# Altium schematic symbol library First Board IMX6.SchLib: 153 symbols (part 1 of 2)
Pins are listed as number, name and electrical type; pins without a type are passive.

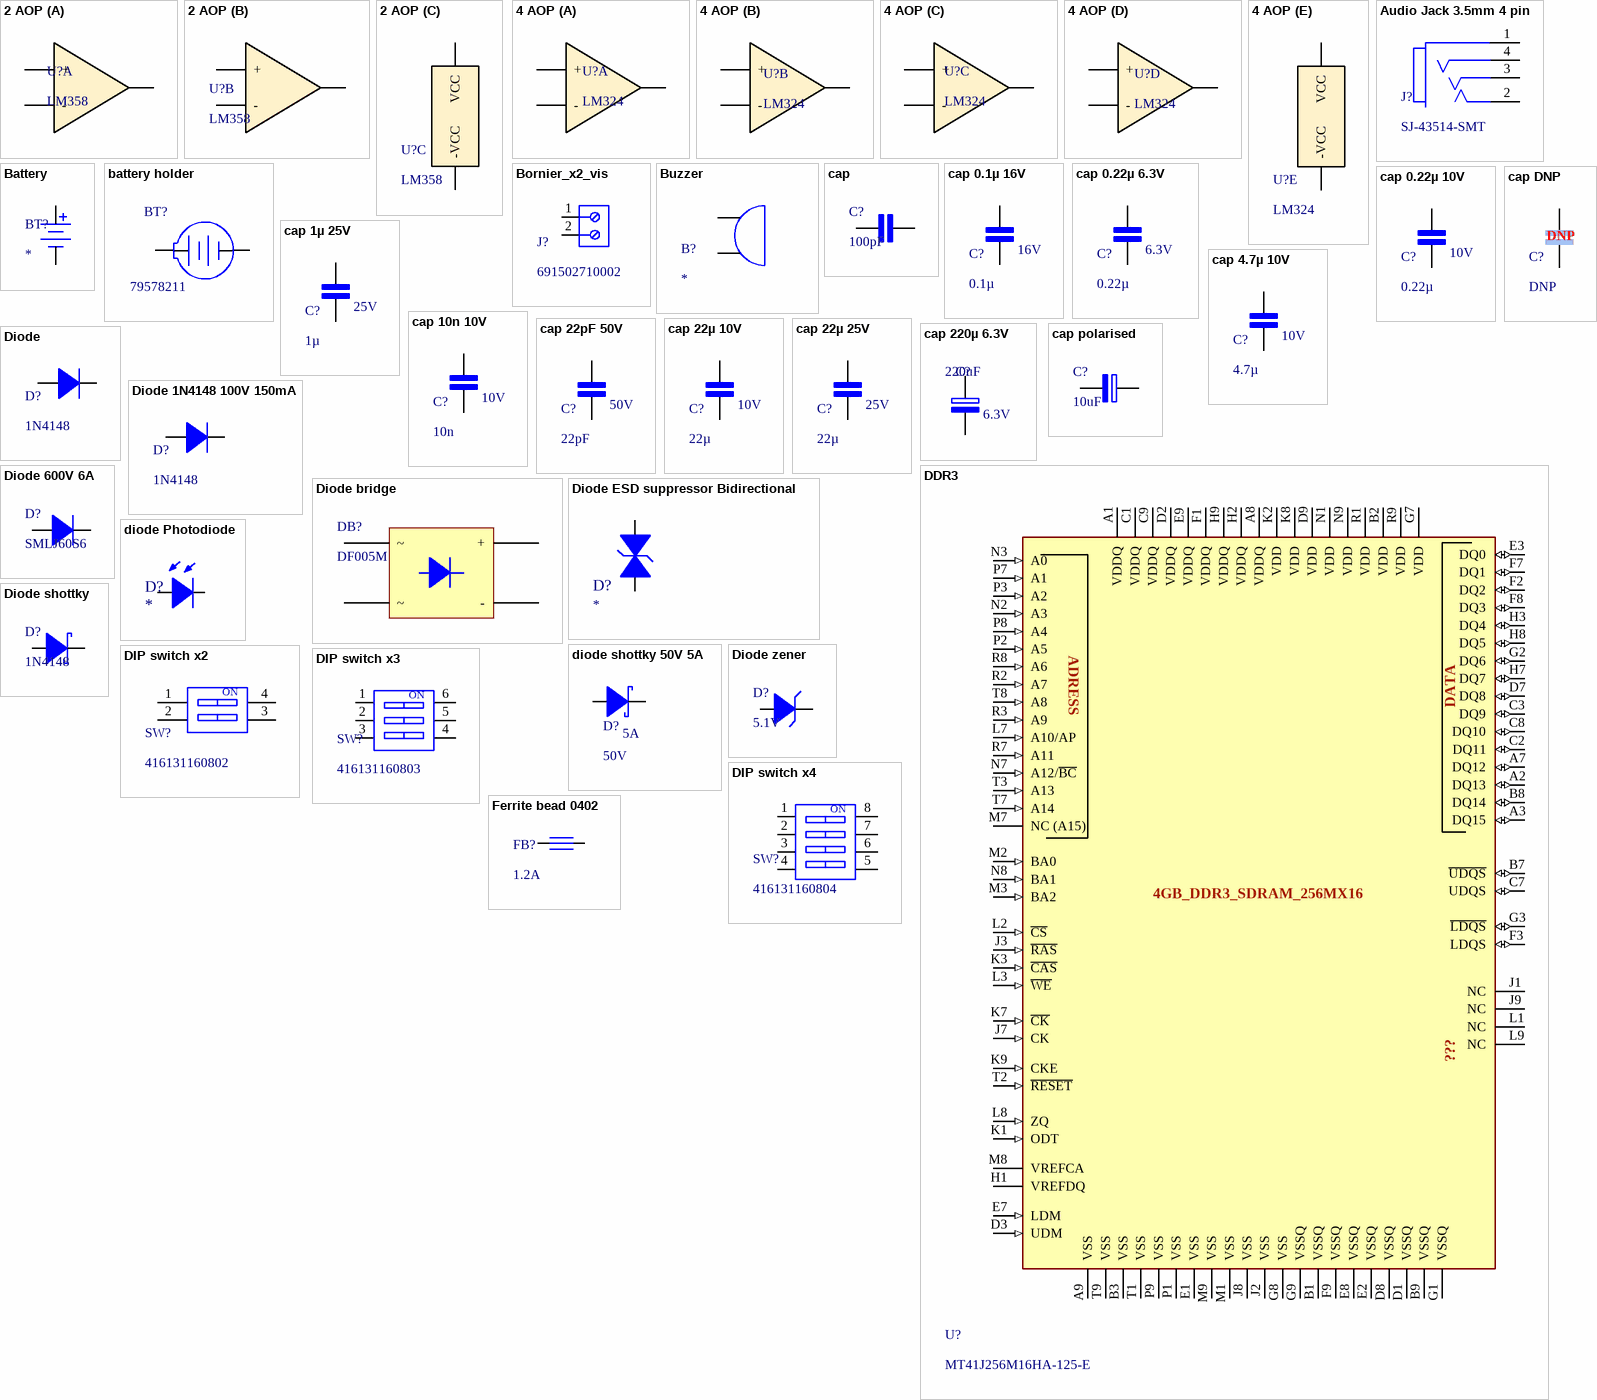
[diagram p0: symbols 2 AOP to Ferrite bead 0402]

## 2 AOP
designator U?, comment LM358
footprint DIP8
footprint Soic-8
part A pins: 1 out, 2 -, 3 +
part B pins: 5 +, 6 -, 7 out
part C pins: 4 -VCC, 8 VCC

## 4 AOP
designator U?, comment LM324
footprint DIP14
part A pins: 1 out, 2 -, 3 +
part B pins: 5 +, 6 -, 7 out
part C pins: 8 out, 9 -, 10 +
part D pins: 12 +, 13 -, 14 out
part E pins: 4 VCC, 11 -VCC

## Audio Jack 3.5mm 4 pin
designator J?, comment SJ-43514-SMT
4 pole audio Jack SJ-43514-SMT
footprint Jack SJ-43514-SMT
pins: 1 sleeve, 2 tip, 3 ring 1, 4 ring 2

## Battery
designator BT?
pins: 1, 2

## battery holder
designator BT?, comment 79578211
WA-BCPH Battery Holder, THT, Battery Type 2450; Manufacturer: Wurth Elektronik; Battery Type: 2450; ComponentLink1Description: Manufacturer; ComponentLink1URL: http://www.we-online.de; ComponentLink2Description: Datasheet; ComponentLink2URL: https://www.we-online.com/catalog/datasheet/79578211.pdf; Manufacturer Part Number: 79578211; Mounting Technology: THT; Operating Temperature: -40 to +105degC; Published Date: July 2021; Packaging: Bag
footprint Battery holder
pins: 1 +, 2 -

## Bornier_x2_vis
designator J?, comment 691502710002
footprint Bornier à vis x2
pins: 1, 2

## Buzzer
designator B?
footprint buzzer 2
footprint Buzzer
pins: 1, 2

## cap
designator C?, comment 100pF
footprint Cap cer 0805/2012
footprint Cap cer 2.5mm pitch THT
footprint Cap cer 0402/1005
footprint Cap cer 0603/4608
footprint Cap cer 1206/3216
footprint Cap cer 1808/4516
pins: 1 3, 2 4

## cap 0.1µ 16V
designator C?, comment 0.1µ  Tension du diélectrique: 16V
cap solid electrolyte 0.1µ 6.3V 10%; Diélectrique: X7R
footprint Cap cer 0402/1005
pins: 1 3, 2 4

## cap 0.22µ 6.3V
designator C?, comment 0.22µ  Tension du diélectrique: 6.3V
cap solid electrolyte 0.22µ 6.3V 10%; Diélectrique: X5R
footprint CAP CER 0201/0603
pins: 1 3, 2 4

## cap 0.22µ 10V
designator C?, comment 0.22µ  Tension du diélectrique: 10V
cap cer 0.22µ 10V 10% X5R 0402; Diélectrique: X5R
footprint Cap cer 0402/1005
pins: 1 3, 2 4

## cap 1µ 25V
designator C?, comment 1µ  Tension du diélectrique: 25V
cap cer 1µ 25V 10% X5R 0402; Diélectrique: X5R
footprint Cap cer 0402/1005
pins: 1 3, 2 4

## cap 4.7µ 10V
designator C?, comment 4.7µ  Tension du diélectrique: 10V
cap cer 4.7µ 10V 10% X7R 0402; Diélectrique: X7R
footprint Cap cer 0402/1005
pins: 1 3, 2 4

## cap 10n 10V
designator C?, comment 10n  Tension du diélectrique: 10V
cap ceramique 10n 10V 10% 0201; Diélectrique: X5R
footprint CAP CER 0201/0603
pins: 1 3, 2 4

## cap 22pF 50V
designator C?, comment 22pF  Tension du diélectrique: 50V
cap cer 22pF 50V 5% NP0 0402; Diélectrique: NP0
footprint Cap cer 0402/1005
pins: 1 3, 2 4

## cap 22µ 10V
designator C?, comment 22µ  Tension du diélectrique: 10V
cap cer 22µ 10V 10% X5R 0603; Diélectrique: X5R
footprint Cap cer 0603/4608
pins: 1 3, 2 4

## cap 22µ 25V
designator C?, comment 22µ  Tension du diélectrique: 25V
cap cer 22µ 25V 10% X5R 0805; Diélectrique: X5R
footprint Cap cer 0805/2012
pins: 1 3, 2 4

## cap 220µ 6.3V
designator C?, comment 220uF  Rated Voltage (DC): 6.3V
WCAP-PHGP Aluminum Polymer Capacitor, H-Chip SMT, L7.3W4.3H1.9mm, 220uF, 6.3V 875015119006; Manufacturer: Wurth Elektronik; Capacitance Tolerance: +/-20%; Dissipation Factor: 6%; Endurance: 2000h; ESR: 15mOhm; Leakage Current: 138.6uA; Ripple Current: 5100mA; Technical Reference: PSE2917221M6R3DHCT2HT19; ComponentLink1Description: Manufacturer Link; ComponentLink1URL: https://www.we-online.com/redexpert/article/875015119006?ad; ComponentLink2Description: Datasheet; ComponentLink2URL: https://www.we-online.com/redexpert/spec/875015119006?ad; Category: Aluminum Polymer Capacitors; Match Code: WCAP-PHGP; Manufacturer Part Number: 875015119006; Mount: Surface Mount; Operating Temperature Max: 105°C; Operating Temperature Min: -55°C; Packaging: Tape and Reel; Length: 7.3mm; Width: 4.3mm; Height: 1.9mm; Capacitance: 220uF; Parameter 1: *
footprint cap polymer wurth
pins: 1 P, 2 N

## cap DNP
designator C?, comment DNP
cap cer DNP 0402
footprint Cap cer 0402/1005
pins: 1 3, 2 4

## cap polarised
designator C?, comment 10uF
footprint CAP EL 10 mm Pitch
footprint Cap el 2.5 mm Pitch
footprint Cap EL 5.0 mm Pitch
footprint Cap EL 3.5 mm Pitch
footprint Cap el 7.5 mm Pitch
pins: 1 3, 2 4

## DDR3
designator U?, comment MT41J256M16HA-125-E
DDR3 4Gbx4
footprint BGA-96 DDR3
ibis MT41J512M8RH (Model Description)
pins: A1 VDDQ (power), A2 DQ13 (io), A3 DQ15 (io), A7 DQ12 (io), A8 VDDQ (power), A9 VSS (power), B1 VSSQ (power), B2 VDD (power), B3 VSS (power), B7 ~{UDQS} (io), B8 DQ14 (io), B9 VSSQ (power), C1 VDDQ (power), C2 DQ11 (io), C3 DQ9 (io), C7 UDQS (io), C8 DQ10 (io), C9 VDDQ (power), D1 VSSQ (power), D2 VDDQ (power), D3 UDM (in), D7 DQ8 (io), D8 VSSQ (power), D9 VDD (power), E1 VSS (power), E2 VSSQ (power), E3 DQ0 (io), E7 LDM (in), E8 VSSQ (power), E9 VDDQ (power), F1 VDDQ (power), F2 DQ2 (io), F3 LDQS (io), F7 DQ1 (io), F8 DQ3 (io), F9 VSSQ (power), G1 VSSQ (power), G2 DQ6 (io), G3 ~{LDQS} (io), G7 VDD (power), G8 VSS (power), G9 VSSQ (power), H1 VREFDQ (power), H2 VDDQ (power), H3 DQ4 (io), H7 DQ7 (io), H8 DQ5 (io), H9 VDDQ (power), J1 NC, J2 VSS (power), J3 ~{RAS} (in), J7 CK (in), J8 VSS (power), J9 NC, K1 ODT (in), K2 VDD (power), K3 ~{CAS} (in), K7 ~{CK} (in), K8 VDD (power), K9 CKE (in), L1 NC, L2 ~{CS} (in), L3 ~{WE} (in), L7 A10/AP (in), L8 ZQ (in), L9 NC, M1 VSS (power), M2 BA0 (in), M3 BA2 (in), M7 NC (A15), M8 VREFCA (power), M9 VSS (power), N1 VDD (power), N2 A3 (in), N3 A0 (in), N7 A12/~{BC} (in), N8 BA1 (in), N9 VDD (power), P1 VSS (power), P2 A5 (in), P3 A2 (in), P7 A1 (in), P8 A4 (in), P9 VSS (power), R1 VDD (power), R2 A7 (in), R3 A9 (in), R7 A11 (in), R8 A6 (in), R9 VDD (power), T1 VSS (power), T2 ~{RESET} (in), T3 A13 (in), T7 A14 (in), T8 A8 (in), T9 VSS (power)
text: ADRESS; DATA; 4GB_DDR3_SDRAM_256MX16; ???

## Diode
designator D?, comment 1N4148
footprint diode SOD-123
footprint diode 10mm
footprint Diode 5.6mm
footprint Diode DO-214AC
footprint diode SOD-323
pins: A, K

## Diode 1N4148 100V 150mA
designator D?, comment 1N4148
footprint diode SOD-123
pins: A, K

## Diode 600V 6A
designator D?, comment SMLJ60S6
Diode 600V 6A DO-214AB
footprint DO-214AB
pins: A, K

## Diode bridge
designator DB?, comment DF005M
footprint bridge rect GBU
footprint Diode bridge DIP4
pins: 1 +, 2 -, 3 ~, 4 ~

## Diode ESD suppressor Bidirectional
designator D?
footprint Cap cer 0603/4608
pins: 1, 2

## diode Photodiode
designator D?
pins: A, K

## Diode shottky
designator D?, comment 1N4148
footprint Diode 0.3
footprint Diode 5.6mm
footprint Diode DO-214AC
footprint diode SOD-323
footprint diode SOD-123
pins: A, K

## diode shottky 50V 5A
designator D?, comment 50V  Courant: 5A
diode shottky 50V 5A DO-214C
footprint Diode DO-214AC
pins: A, K

## Diode zener
designator D?, comment 5.1V
footprint Diode DO-214AC
footprint Diode Z 7mm
footprint diode SOD-123
footprint Diode 5.6mm
pins: A, K

## DIP switch x2
designator SW?, comment 416131160802
footprint DIP switch x2 1.27mm
pins: 1, 2, 3, 4
text: ON

## DIP switch x3
designator SW?, comment 416131160803
footprint DIP switch x3 1.27mm
pins: 1, 2, 3, 4, 5, 6
text: ON

## DIP switch x4
designator SW?, comment 416131160804
footprint DIP SWITCH x4 1.27mm
pins: 1, 2, 3, 4, 5, 6, 7, 8
text: ON

## Ferrite bead 0402
designator FB?, comment 1.2A
ferrite bead 1.2A 70mohm / 74269242111; ComponentLink1Description: New link; ComponentLink1URL: https://www.we-online.com/catalog/datasheet/74269242111.pdf
footprint inductor 0402/1005
pins: 1, 2

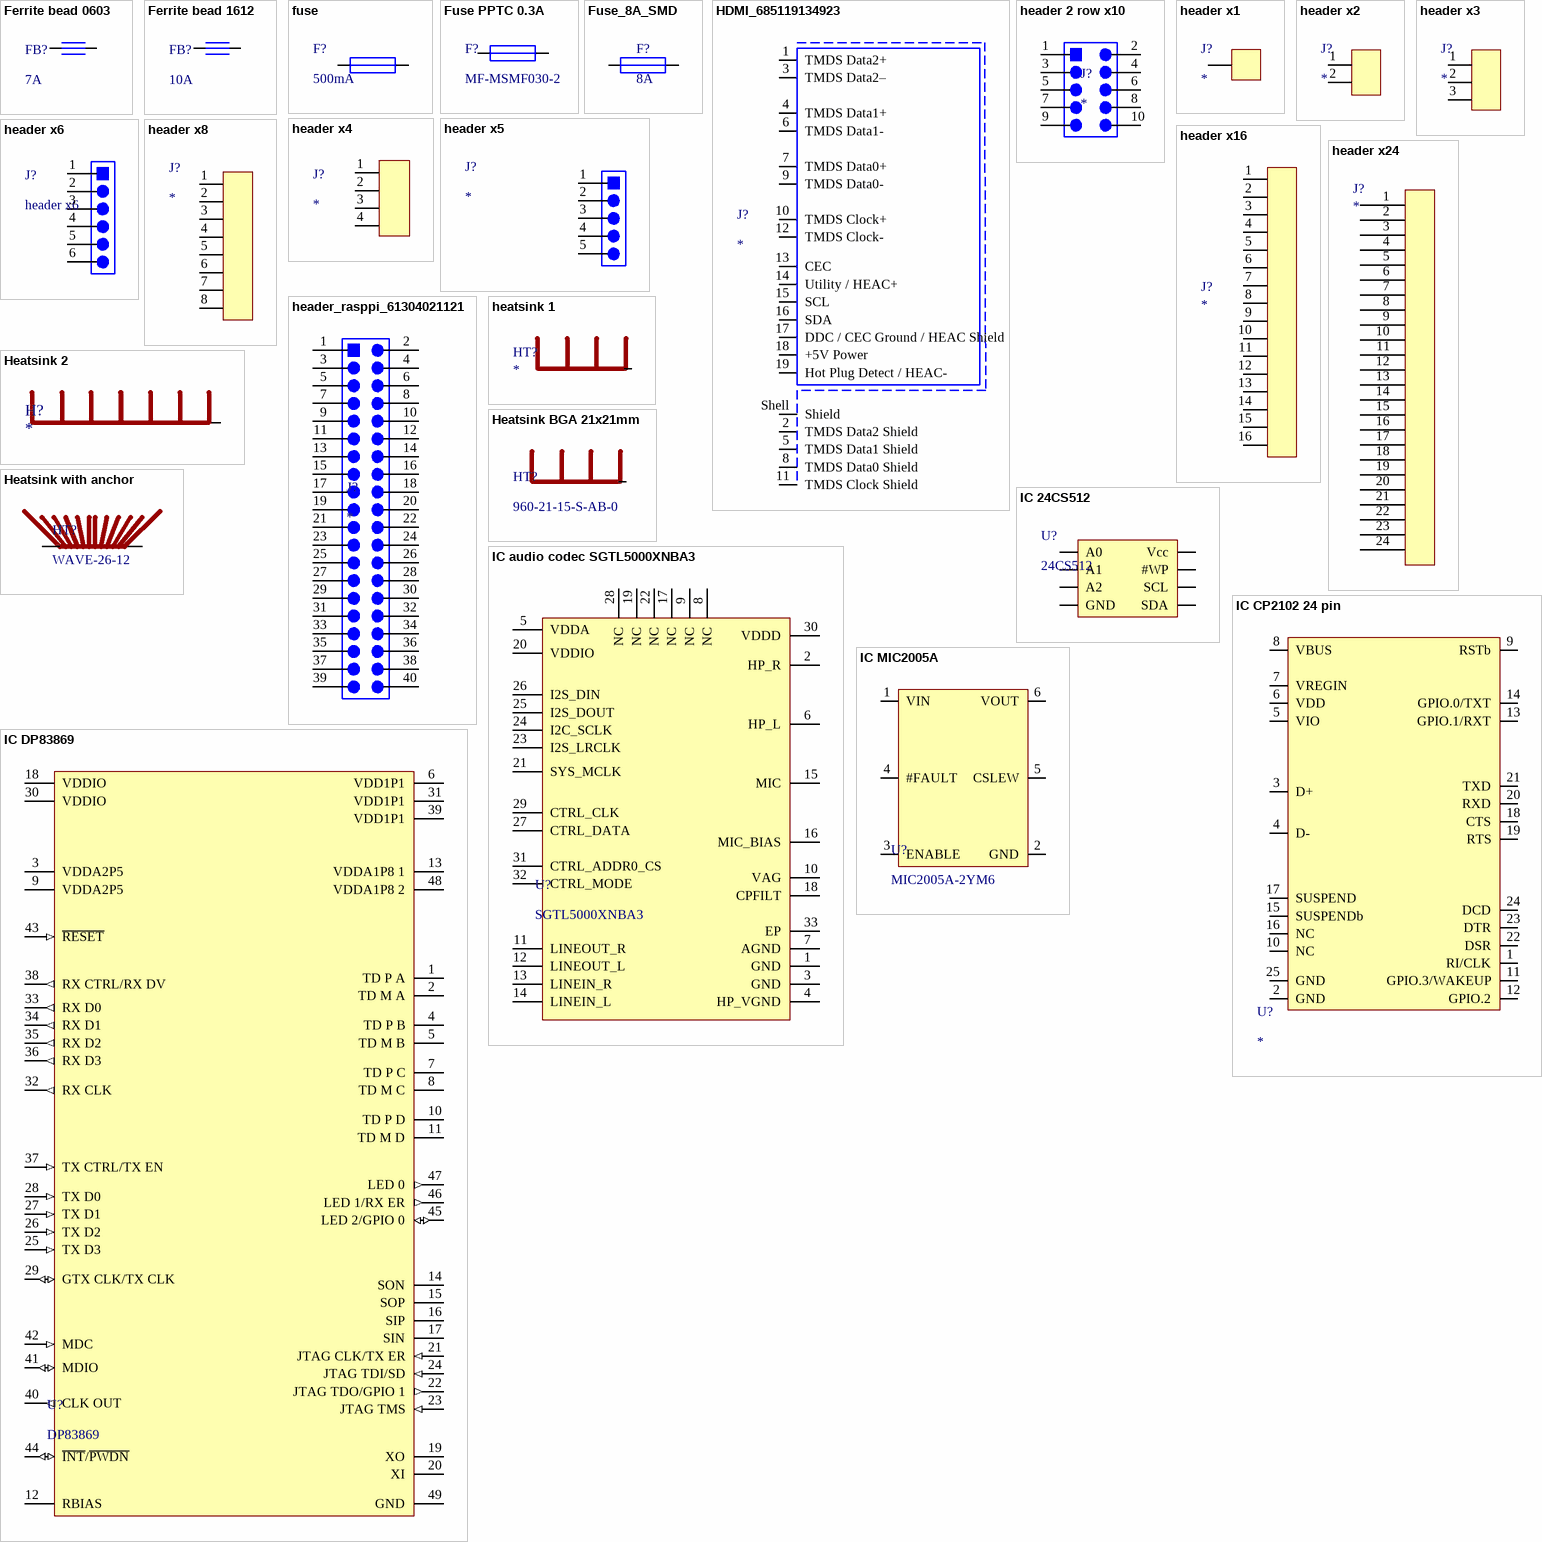
[diagram p1: symbols Ferrite bead 0603 to IC MIC2005A]

## Ferrite bead 0603
designator FB?, comment 7A
ferrite bead 17AA 2mohm / 7426926222; ComponentLink1Description: New link; ComponentLink1URL: https://www.we-online.com/catalog/datasheet/7426926222.pdf
footprint inductor 0603/1603
pins: 1, 2

## Ferrite bead 1612
designator FB?, comment 10A
ferrite bead 10A 2.5m Ohm / 74279223560; ComponentLink1Description: New link; ComponentLink1URL: https://www.we-online.com/catalog/datasheet/74279223560.pdf
footprint Ferrite SMD 1612
pins: 1, 2

## fuse
designator F?, comment 500mA
footprint fuse n2
pins: 1, 2

## Fuse PPTC 0.3A
designator F?, comment MF-MSMF030-2
Hold : 0.3A, trip 0.6A 30V 1812
footprint Fuse 1812/4532 MF-MSMF050-2
pins: 1, 2

## Fuse_8A_SMD
designator F?, comment 8A
Fuse 6A SMD 2410 / NANO; ComponentLink1Description: New link; ComponentLink1URL: https://www.mouser.fr/datasheet/2/240/Littelfuse_Fuse_154_154T_154L_154TL_Datasheet_pdf-365375.pdf
footprint Fuse holder SMD 01550900M
pins: 1, 2

## HDMI_685119134923
designator J?
footprint HDMI_685119134923
pins: 1 TMDS Data2+, 2 TMDS Data2 Shield, 3 TMDS Data2–, 4 TMDS Data1+, 5 TMDS Data1 Shield, 6 TMDS Data1-, 7 TMDS Data0+, 8 TMDS Data0 Shield, 9 TMDS Data0-, 10 TMDS Clock+, 11 TMDS Clock Shield, 12 TMDS Clock-, 13 CEC, 14 Utility / HEAC+, 15 SCL, 16 SDA, 17 DDC / CEC Ground / HEAC Shield, 18 +5V Power, 19 Hot Plug Detect / HEAC-, Shell Shield

## header 2 row x10
designator J?
62131021021
footprint header 2row x10 (Pin Header, pitch 1.27 mm, SMD, Vertical, dual row, 10p)
pins: 1, 2, 3, 4, 5, 6, 7, 8, 9, 10

## header x1
designator J?
footprint Header x1
pins: 1

## header x2
designator J?
footprint Header x2
footprint header x2 screw
pins: 1, 2

## header x3
designator J?
footprint header x3 screw
footprint header x3
pins: 1, 2, 3

## header x4
designator J?
footprint Molex 4
pins: 1, 2, 3, 4

## header x5
designator J?
footprint Header x5
pins: 1, 2, 3, 4, 5

## header x6
designator J?
footprint Header x6
pins: 1, 2, 3, 4, 5, 6

## header x8
designator J?
footprint header x8
pins: 1, 2, 3, 4, 5, 6, 7, 8

## header x16
designator J?
footprint PFC x16 0.5 mm pitch
pins: 1, 2, 3, 4, 5, 6, 7, 8, 9, 10, 11, 12, 13, 14, 15, 16

## header x24
designator J?
pins: 1, 2, 3, 4, 5, 6, 7, 8, 9, 10, 11, 12, 13, 14, 15, 16, 17, 18, 19, 20, 21, 22, 23, 24

## header_rasppi_61304021121
designator J?
header raspberry pi compatible
footprint header_rasppi_61304021121
pins: 1, 2, 3, 4, 5, 6, 7, 8, 9, 10, 11, 12, 13, 14, 15, 16, 17, 18, 19, 20, 21, 22, 23, 24, 25, 26, 27, 28, 29, 30, 31, 32, 33, 34, 35, 36, 37, 38, 39, 40

## heatsink 1
designator HT?
footprint heatsink Mult 15
pins: 1

## Heatsink 2
designator H?
pins: 1

## Heatsink BGA 21x21mm
designator HT?, comment 960-21-15-S-AB-0
Heatsink : 960-21-15-S-AB-0 / 6°/W @ 200LFM
footprint Heatsink BGA 21x21mm
pins: 1

## Heatsink with anchor
designator HT?, comment WAVE-26-12
Anchor : 125700D00000G / Heatsink : WAVE-23-165 / 5.21°/W @ 200LFM
footprint Heatsink Wave-23-165
pins: 1 Anchor, 2 Anchor

## IC 24CS512
designator U?, comment 24CS512
EEPROM 512kbit
footprint soic-8
pins: 1 A0, 2 A1, 3 A2, 4 GND, 5 SDA, 6 SCL, 7 #WP, 8 Vcc

## IC audio codec SGTL5000XNBA3
designator U?, comment SGTL5000XNBA3
Audio codec
footprint QFN32 (QFN, 32-Leads, Body 5,00x5,00mm, Pitch 0,50mm, Thermal Pad 3,60x3,60mm, IPC Medium Density)
pins: 1 GND, 2 HP_R, 3 GND, 4 HP_VGND, 5 VDDA, 6 HP_L, 7 AGND, 8 NC, 9 NC, 10 VAG, 11 LINEOUT_R, 12 LINEOUT_L, 13 LINEIN_R, 14 LINEIN_L, 15 MIC, 16 MIC_BIAS, 17 NC, 18 CPFILT, 19 NC, 20 VDDIO, 21 SYS_MCLK, 22 NC, 23 I2S_LRCLK, 24 I2C_SCLK, 25 I2S_DOUT, 26 I2S_DIN, 27 CTRL_DATA, 28 NC, 29 CTRL_CLK, 30 VDDD, 31 CTRL_ADDR0_CS, 32 CTRL_MODE, 33 EP

## IC CP2102 24 pin
designator U?
UART to USB converter
footprint QFN24
pins: 1 RI/CLK, 2 GND, 3 D+, 4 D-, 5 VIO, 6 VDD, 7 VREGIN, 8 VBUS, 9 RSTb, 10 NC, 11 GPIO.3/WAKEUP, 12 GPIO.2, 13 GPIO.1/RXT, 14 GPIO.0/TXT, 15 SUSPENDb, 16 NC, 17 SUSPEND, 18 CTS, 19 RTS, 20 RXD, 21 TXD, 22 DSR, 23 DTR, 24 DCD, 25 GND

## IC DP83869
designator U?, comment DP83869
Ethernet transciever
footprint QFN48
pins: 1 TD P A, 2 TD M A, 3 VDDA2P5 (power), 4 TD P B, 5 TD M B, 6 VDD1P1 (power), 7 TD P C, 8 TD M C, 9 VDDA2P5 (power), 10 TD P D, 11 TD M D, 12 RBIAS, 13 VDDA1P8 1 (power), 14 SON, 15 SOP, 16 SIP, 17 SIN, 18 VDDIO (power), 19 XO, 20 XI, 21 JTAG CLK/TX ER (in), 22 JTAG TDO/GPIO 1 (out), 23 JTAG TMS (in), 24 JTAG TDI/SD (in), 25 TX D3 (in), 26 TX D2 (in), 27 TX D1 (in), 28 TX D0 (in), 29 GTX CLK/TX CLK (io), 30 VDDIO (power), 31 VDD1P1 (power), 32 RX CLK (out), 33 RX D0 (out), 34 RX D1 (out), 35 RX D2 (out), 36 RX D3 (out), 37 TX CTRL/TX EN (in), 38 RX CTRL/RX DV (out), 39 VDD1P1 (power), 40 CLK OUT (out), 41 MDIO (io), 42 MDC (in), 43 ~{RESET} (in), 44 ~{INT}/~{PWDN} (io), 45 LED 2/GPIO 0 (io), 46 LED 1/RX ER (out), 47 LED 0 (out), 48 VDDA1P8 2 (power), 49 GND (power)

## IC MIC2005A
designator U?, comment MIC2005A-2YM6
Current limiter 0.5A; ComponentLink1Description: New link; ComponentLink1URL: https://ww1.microchip.com/downloads/aemDocuments/documents/APID/ProductDocuments/DataSheets/MIC20XX-Fixed-and-Adjustable-Current-Limiting-Power-Distribution-Switches-DS20006486B.pdf
footprint SOt-23-6
pins: 1 VIN, 2 GND, 3 ENABLE, 4 #FAULT, 5 CSLEW, 6 VOUT

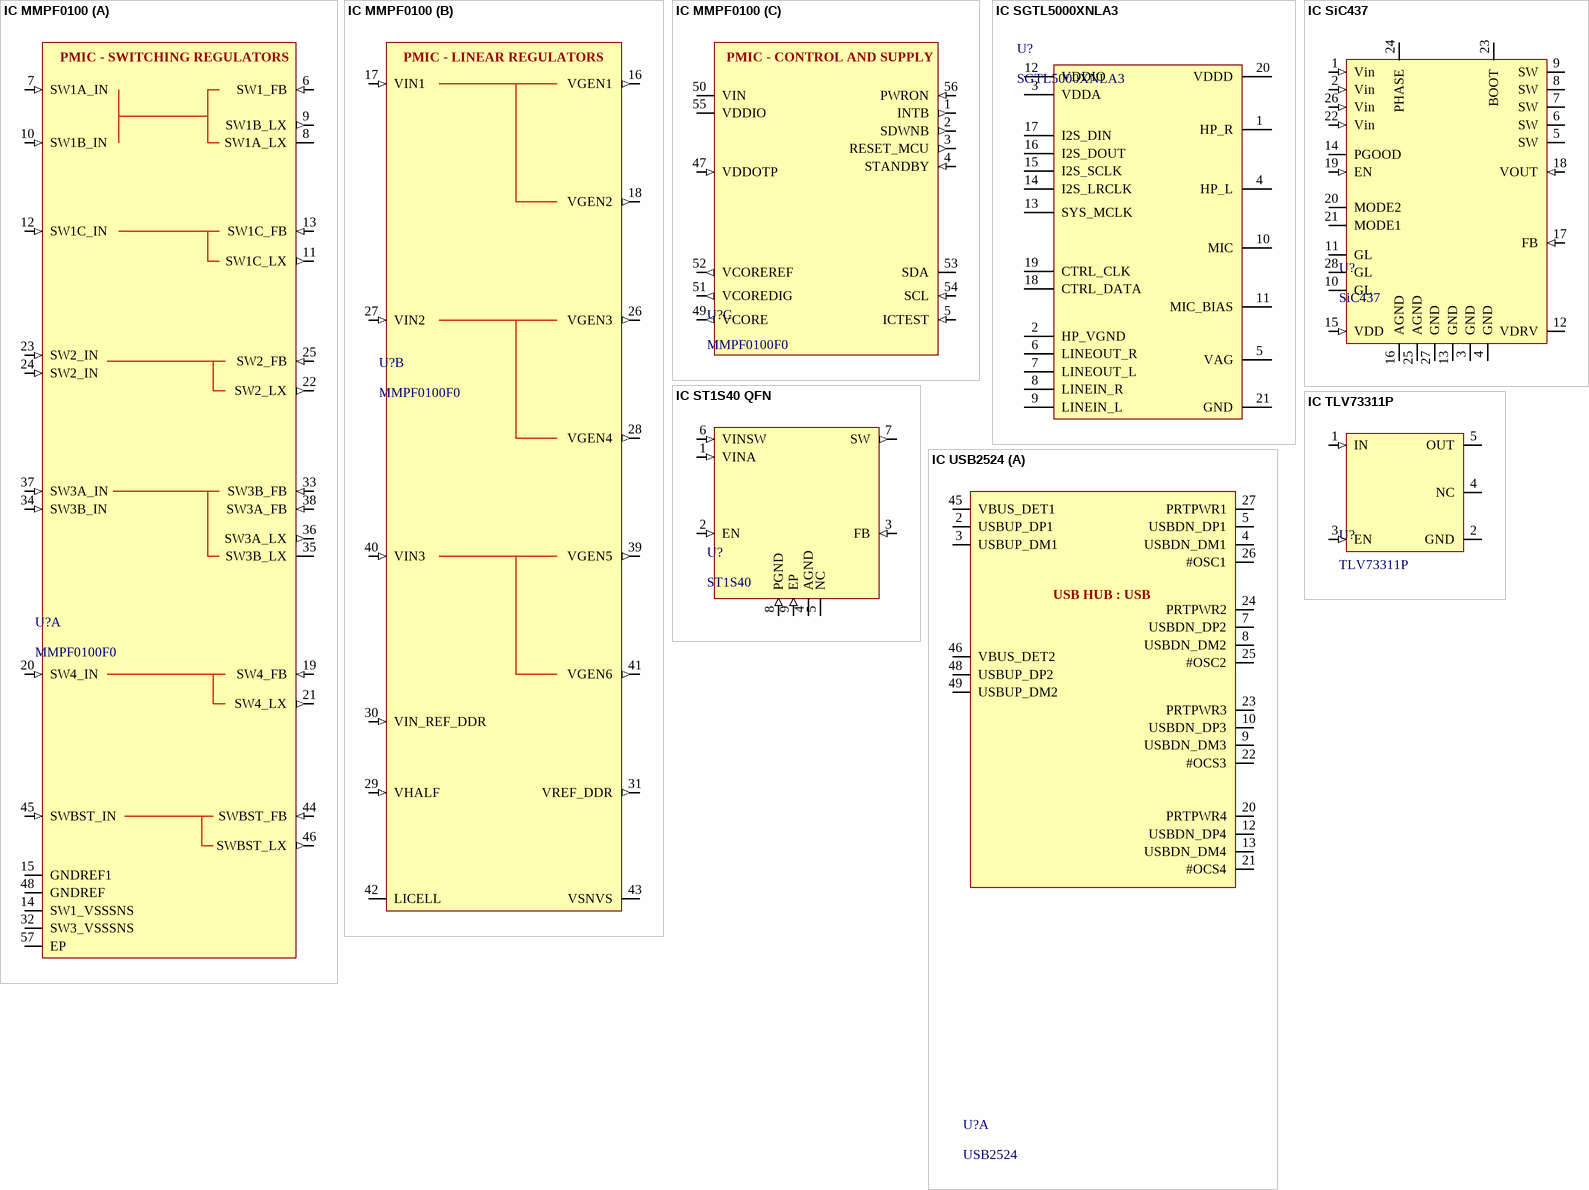
[diagram p2: symbols IC MMPF0100 to IC USB2524]

## IC MMPF0100
designator U?, comment MMPF0100F0
PMIC; ComponentLink1Description: New link; ComponentLink1URL: D:\Carte_IMX6\datasheet\MMPF0100.pdf
footprint MMPF0100
part A pins: 6 SW1_FB (in), 7 SW1A_IN (in), 8 SW1A_LX, 9 SW1B_LX (out), 10 SW1B_IN (in), 11 SW1C_LX (out), 12 SW1C_IN (in), 13 SW1C_FB (in), 14 SW1_VSSSNS, 15 GNDREF1, 19 SW4_FB (in), 20 SW4_IN (in), 21 SW4_LX (out), 22 SW2_LX (out), 23 SW2_IN (in), 24 SW2_IN (in), 25 SW2_FB (in), 32 SW3_VSSSNS, 33 SW3B_FB (in), 34 SW3B_IN (in), 35 SW3B_LX, 36 SW3A_LX (out), 37 SW3A_IN (in), 38 SW3A_FB (in), 44 SWBST_FB (in), 45 SWBST_IN (in), 46 SWBST_LX (out), 48 GNDREF, 57 EP
part B pins: 16 VGEN1 (out), 17 VIN1 (in), 18 VGEN2 (out), 26 VGEN3 (out), 27 VIN2 (in), 28 VGEN4 (out), 29 VHALF (in), 30 VIN_REF_DDR (in), 31 VREF_DDR (out), 39 VGEN5 (out), 40 VIN3 (in), 41 VGEN6 (out), 42 LICELL (io), 43 VSNVS (io)
part C pins: 1 INTB (out), 2 SDWNB (out), 3 RESET_MCU (out), 4 STANDBY (in), 5 ICTEST (in), 47 VDDOTP (in), 49 VCORE (out), 50 VIN (power), 51 VCOREDIG (out), 52 VCOREREF (out), 53 SDA (io), 54 SCL (in), 55 VDDIO (power), 56 PWRON (in)
part A text: PMIC - SWITCHING REGULATORS
part B text: PMIC - LINEAR REGULATORS
part C text: PMIC - CONTROL AND SUPPLY

## IC SGTL5000XNLA3
designator U?, comment SGTL5000XNLA3
Audio codec
footprint QFN20 (QFN, 20-Leads, Body 3,00x3,00mm, Pitch 0,40mm, Thermal Pad 1,80x1,80mm, IPC Medium Density)
pins: 1 HP_R, 2 HP_VGND, 3 VDDA, 4 HP_L, 5 VAG, 6 LINEOUT_R, 7 LINEOUT_L, 8 LINEIN_R, 9 LINEIN_L, 10 MIC, 11 MIC_BIAS, 12 VDDIO, 13 SYS_MCLK, 14 I2S_LRCLK, 15 I2S_SCLK, 16 I2S_DOUT, 17 I2S_DIN, 18 CTRL_DATA, 19 CTRL_CLK, 20 VDDD, 21 GND

## IC SiC437
designator U?, comment SiC437
3-28V in 12A out max
footprint SiC437
pins: 1 Vin (in), 2 Vin (in), 3 GND, 4 GND, 5 SW, 6 SW, 7 SW, 8 SW, 9 SW, 10 GL, 11 GL, 12 VDRV, 13 GND, 14 PGOOD, 15 VDD (in), 16 AGND, 17 FB (in), 18 VOUT (in), 19 EN (in), 20 MODE2, 21 MODE1, 22 Vin (in), 23 BOOT, 24 PHASE, 25 AGND, 26 Vin (in), 27 GND, 28 GL

## IC ST1S40 QFN
designator U?, comment ST1S40
switching regulator
footprint SON 4x4 ST1S40 (SON, 8-Leads, Body 4,00x4,00mm, Pitch 0,80mm, Thermal Pad 3,00x2,20mm, IPC Medium Density)
pins: 1 VINA (in), 2 EN (in), 3 FB (in), 4 AGND, 5 NC, 6 VINSW (in), 7 SW (out), 8 PGND (in), 9 EP (in)

## IC TLV73311P
designator U?, comment TLV73311P
+1.1V 350mA LDO
footprint Sot-23-5
pins: 1 IN (in), 2 GND, 3 EN (in), 4 NC, 5 OUT (power)

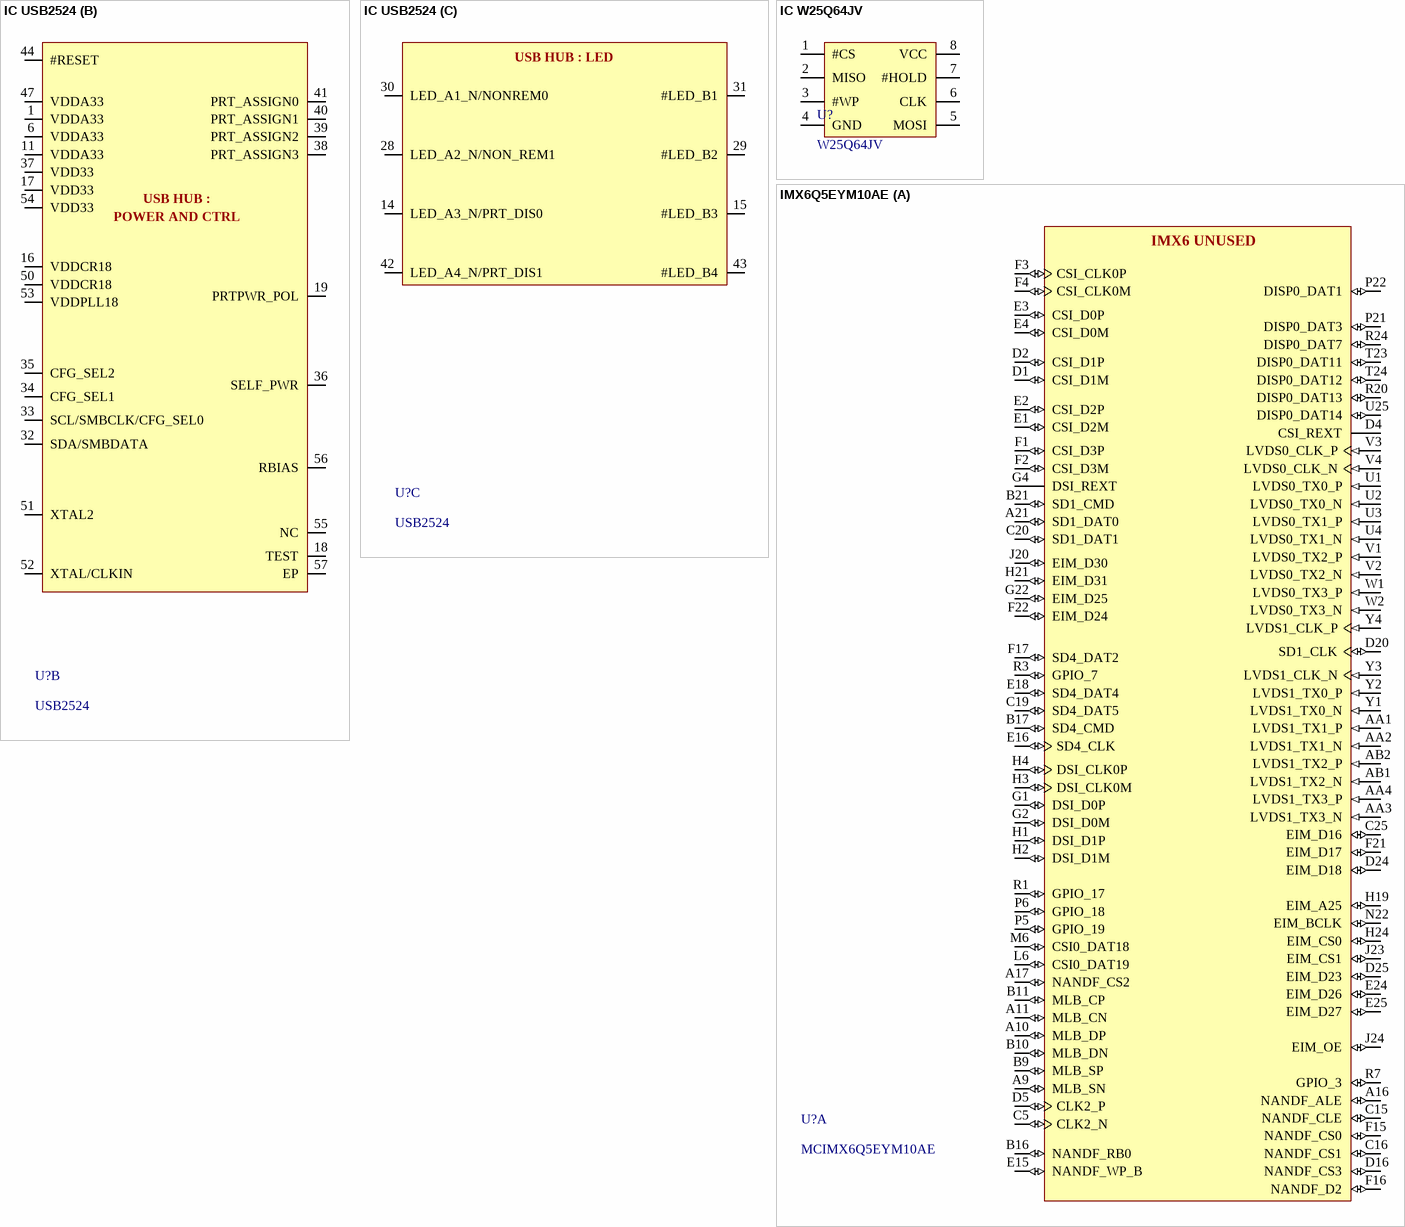
[diagram p3: symbols IC USB2524 to IMX6Q5EYM10AE]

## IC USB2524
designator U?, comment USB2524
USB hub 4 ports
footprint QFN56
part A pins: 2 USBUP_DP1, 3 USBUP_DM1, 4 USBDN_DM1, 5 USBDN_DP1, 7 USBDN_DP2, 8 USBDN_DM2, 9 USBDN_DM3, 10 USBDN_DP3, 12 USBDN_DP4, 13 USBDN_DM4, 20 PRTPWR4, 21 #OCS4, 22 #OCS3, 23 PRTPWR3, 24 PRTPWR2, 25 #OSC2, 26 #OSC1, 27 PRTPWR1, 45 VBUS_DET1, 46 VBUS_DET2, 48 USBUP_DP2, 49 USBUP_DM2
part B pins: 1 VDDA33, 6 VDDA33, 11 VDDA33, 16 VDDCR18, 17 VDD33, 18 TEST, 19 PRTPWR_POL, 32 SDA/SMBDATA, 33 SCL/SMBCLK/CFG_SEL0, 34 CFG_SEL1, 35 CFG_SEL2, 36 SELF_PWR, 37 VDD33, 38 PRT_ASSIGN3, 39 PRT_ASSIGN2, 40 PRT_ASSIGN1, 41 PRT_ASSIGN0, 44 #RESET, 47 VDDA33, 50 VDDCR18, 51 XTAL2, 52 XTAL/CLKIN, 53 VDDPLL18, 54 VDD33, 55 NC, 56 RBIAS, 57 EP
part C pins: 14 LED_A3_N/PRT_DIS0, 15 #LED_B3, 28 LED_A2_N/NON_REM1, 29 #LED_B2, 30 LED_A1_N/NONREM0, 31 #LED_B1, 42 LED_A4_N/PRT_DIS1, 43 #LED_B4
part A text: USB HUB : USB
part B text: USB HUB :; POWER AND CTRL
part C text: USB HUB : LED

## IC W25Q64JV
designator U?, comment W25Q64JV
64Mbit flash NOR
footprint SOIC 8 pin FLSH (longer)
pins: 1 #CS, 2 MISO, 3 #WP, 4 GND, 5 MOSI, 6 CLK, 7 #HOLD, 8 VCC

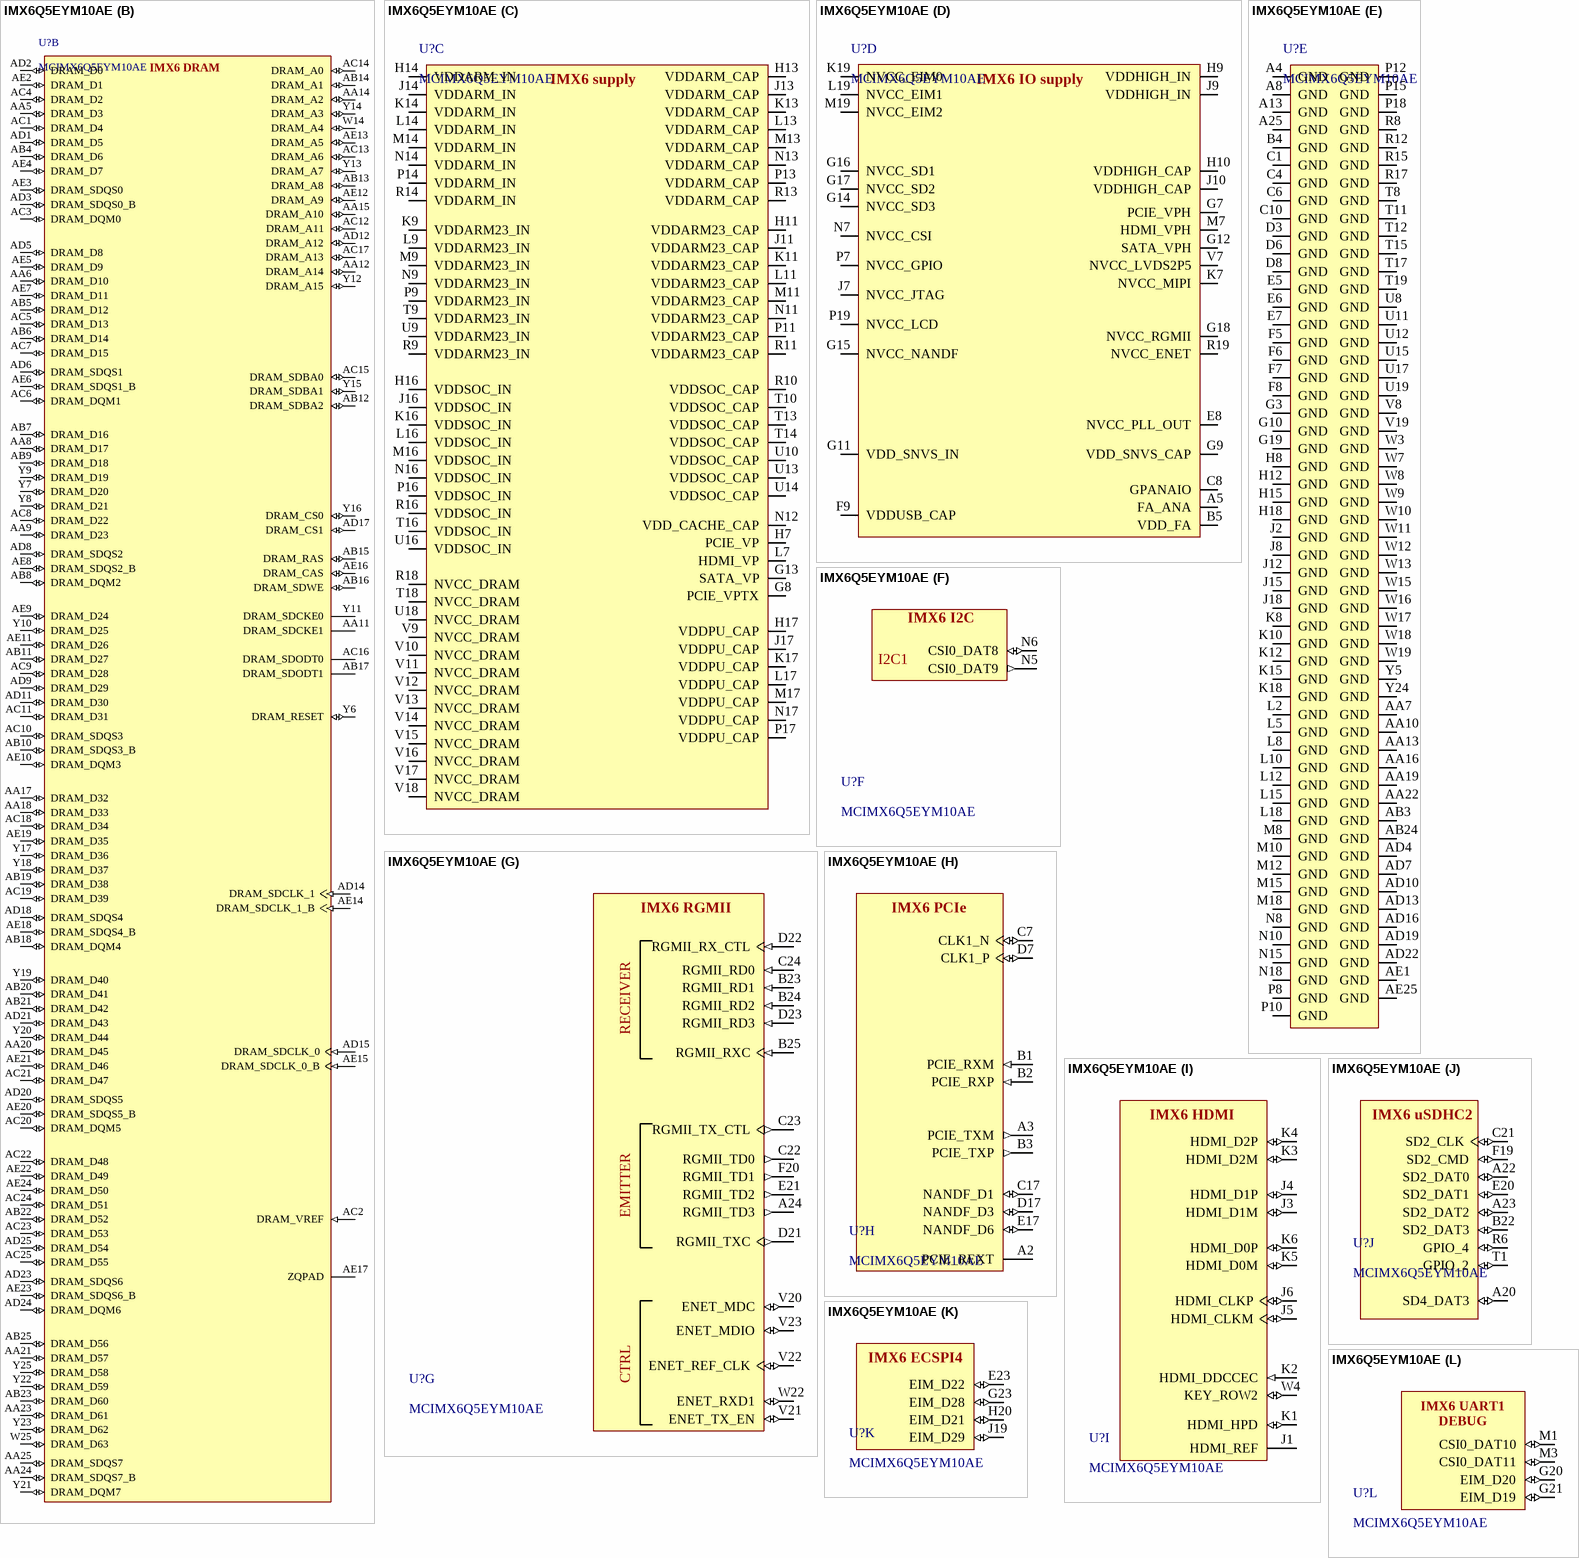
[diagram p4: symbol IMX6Q5EYM10AE]

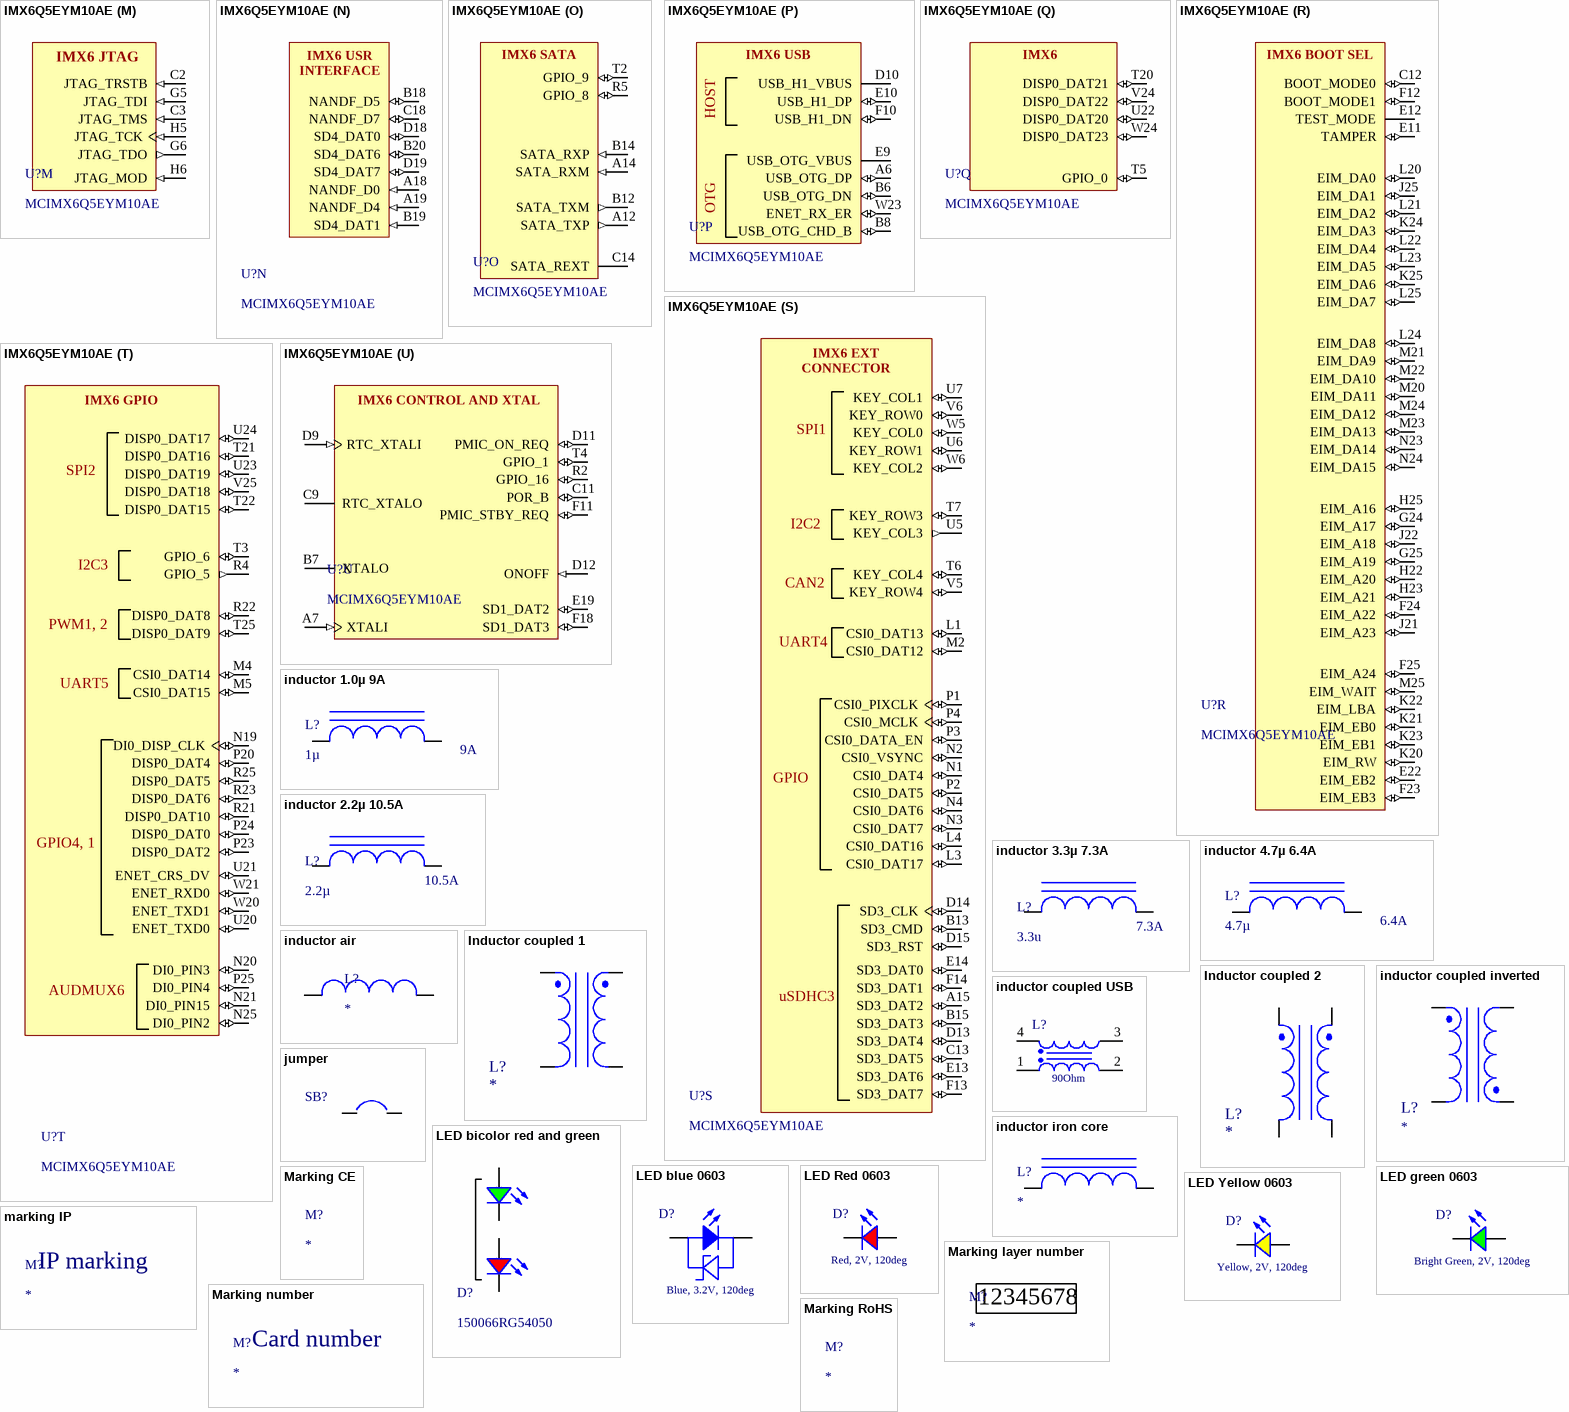
[diagram p5: symbols IMX6Q5EYM10AE to Marking RoHS]

## IMX6Q5EYM10AE
designator U?, comment MCIMX6Q5EYM10AE
32-Bit i.MX 6 Quad Application Processor, 1 GHz, 256 KB RAM, Extended Consumer Grade, 624-Pin FCPBGA, RoHS, Tape and Reel; PartNumber: MCIMX6Q5EYM10ACR; Manufacturer: Freescale Semiconductor; CAN: FlexCAN; Number of Cores: 4 Spec; External Memory Supported: DDR3, DDR3L, FLASH, LPDDR2; Speed Grade: 1 GHz; Core Type: ARM Cortex A9; Cache (KB): 32; Ethernet: 1 Gbps + IEEE 1588; Internal RAM (KB): 256; ComponentLink1Description: Manufacturer URL; ComponentLink2Description: Datasheet; DatasheetVersion: Rev. 2.3; ComponentLink3URL: http://cache.freescale.com/files/32bit/doc/data_sheet/IMX6DQCEC.pdf?fpsp=1&WT_TYPE=Data%20Sheets&WT_VENDOR=FREESCALE&WT_FILE_FORMAT=pdf&WT_ASSET=Documentation; ComponentLink1URL: http://www.freescale.com/; Packing: Tape and Reel; Temperature Range: -20 to 105 degC; ComponentLink2URL: http://cache.freescale.com/files/32bit/doc/data_sheet/IMX6DQCEC.pdf?fpsp=1&WT_TYPE=Data%20Sheets&WT_VENDOR=FREESCALE&WT_FILE_FORMAT=pdf&WT_ASSET=Documentation; ComponentLink3Description: Package Specification; PackageVersion: Rev. A; RoHS: TRUE; Quad/Dual CPU: i.MX 6Quad; Mounting Technology: Surface Mount; PackageReference: FCPBGA-624; PackageDescription: 624-pin Ball Grid Array Package, Body 21 x 21mm, Pitch 0.8mm
footprint FRES-2197-01
ibis iMX6Q (Model Description)
part A pins: A9 MLB_SN (io), A10 MLB_DP (io), A11 MLB_CN (io), A16 NANDF_ALE (io), A17 NANDF_CS2 (io), A21 SD1_DAT0 (io), AA1 LVDS1_TX1_P (in), AA2 LVDS1_TX1_N (in), AA3 LVDS1_TX3_N (in), AA4 LVDS1_TX3_P (in), AB1 LVDS1_TX2_N (in), AB2 LVDS1_TX2_P (in), B9 MLB_SP (io), B10 MLB_DN (io), B11 MLB_CP (io), B16 NANDF_RB0 (io), B17 SD4_CMD (io), B21 SD1_CMD (io), C5 CLK2_N (io), C15 NANDF_CLE (io), C16 NANDF_CS1 (io), C19 SD4_DAT5 (io), C20 SD1_DAT1 (io), C25 EIM_D16 (io), D1 CSI_D1M (io), D2 CSI_D1P (io), D4 CSI_REXT, D5 CLK2_P (io), D16 NANDF_CS3 (io), D20 SD1_CLK (io), D24 EIM_D18 (io), D25 EIM_D23 (io), E1 CSI_D2M (io), E2 CSI_D2P (io), E3 CSI_D0P (io), E4 CSI_D0M (io), E15 NANDF_WP_B (io), E16 SD4_CLK (io), E18 SD4_DAT4 (io), E24 EIM_D26 (io), E25 EIM_D27 (io), F1 CSI_D3P (io), F2 CSI_D3M (io), F3 CSI_CLK0P (io), F4 CSI_CLK0M (io), F15 NANDF_CS0 (io), F16 NANDF_D2 (io), F17 SD4_DAT2 (io), F21 EIM_D17 (io), F22 EIM_D24 (io), G1 DSI_D0P (io), G2 DSI_D0M (io), G4 DSI_REXT, G22 EIM_D25 (io), H1 DSI_D1P (io), H2 DSI_D1M (io), H3 DSI_CLK0M (io), H4 DSI_CLK0P (io), H19 EIM_A25 (io), H21 EIM_D31 (io), H24 EIM_CS0 (io), J20 EIM_D30 (io), J23 EIM_CS1 (io), J24 EIM_OE (io), L6 CSI0_DAT19 (io), M6 CSI0_DAT18 (io), N22 EIM_BCLK (io), P5 GPIO_19 (io), P6 GPIO_18 (io), P21 DISP0_DAT3 (io), P22 DISP0_DAT1 (io), R1 GPIO_17 (io), R3 GPIO_7 (io), R7 GPIO_3 (io), R20 DISP0_DAT13 (io), R24 DISP0_DAT7 (io), T23 DISP0_DAT11 (io), T24 DISP0_DAT12 (io), U1 LVDS0_TX0_P (in), U2 LVDS0_TX0_N (in), U3 LVDS0_TX1_P (in), U4 LVDS0_TX1_N (in), U25 DISP0_DAT14 (io), V1 LVDS0_TX2_P (in), V2 LVDS0_TX2_N (in), V3 LVDS0_CLK_P (in), V4 LVDS0_CLK_N (in), W1 LVDS0_TX3_P (in), W2 LVDS0_TX3_N (in), Y1 LVDS1_TX0_N (in), Y2 LVDS1_TX0_P (in), Y3 LVDS1_CLK_N (in), Y4 LVDS1_CLK_P (in)
part B pins: AA5 DRAM_D3 (io), AA6 DRAM_D10 (io), AA8 DRAM_D17 (io), AA9 DRAM_D23 (io), AA11 DRAM_SDCKE1, AA12 DRAM_A14 (io), AA14 DRAM_A2 (io), AA15 DRAM_A10 (io), AA17 DRAM_D32 (io), AA18 DRAM_D33 (io), AA20 DRAM_D45 (io), AA21 DRAM_D57 (io), AA23 DRAM_D61 (io), AA24 DRAM_SDQS7_B (io), AA25 DRAM_SDQS7 (io), AB4 DRAM_D6 (io), AB5 DRAM_D12 (io), AB6 DRAM_D14 (io), AB7 DRAM_D16 (io), AB8 DRAM_DQM2 (io), AB9 DRAM_D18 (io), AB10 DRAM_SDQS3_B (io), AB11 DRAM_D27 (io), AB12 DRAM_SDBA2 (io), AB13 DRAM_A8 (io), AB14 DRAM_A1 (io), AB15 DRAM_RAS (io), AB16 DRAM_SDWE (io), AB17 DRAM_SDODT1, AB18 DRAM_DQM4 (io), AB19 DRAM_D38 (io), AB20 DRAM_D41 (io), AB21 DRAM_D42 (io), AB22 DRAM_D52 (io), AB23 DRAM_D60 (io), AB25 DRAM_D56 (io), AC1 DRAM_D4 (io), AC2 DRAM_VREF (in), AC3 DRAM_DQM0 (io), AC4 DRAM_D2 (io), AC5 DRAM_D13 (io), AC6 DRAM_DQM1 (io), AC7 DRAM_D15 (io), AC8 DRAM_D22 (io), AC9 DRAM_D28 (io), AC10 DRAM_SDQS3 (io), AC11 DRAM_D31 (io), AC12 DRAM_A11 (io), AC13 DRAM_A6 (io), AC14 DRAM_A0 (io), AC15 DRAM_SDBA0 (io), AC16 DRAM_SDODT0, AC17 DRAM_A13 (io), AC18 DRAM_D34 (io), AC19 DRAM_D39 (io), AC20 DRAM_DQM5 (io), AC21 DRAM_D47 (io), AC22 DRAM_D48 (io), AC23 DRAM_D53 (io), AC24 DRAM_D51 (io), AC25 DRAM_D55 (io), AD1 DRAM_D5 (io), AD2 DRAM_D0 (io), AD3 DRAM_SDQS0_B (io), AD5 DRAM_D8 (io), AD6 DRAM_SDQS1 (io), AD8 DRAM_SDQS2 (io), AD9 DRAM_D29 (io), AD11 DRAM_D30 (io), AD12 DRAM_A12 (io), AD14 DRAM_SDCLK_1 (in), AD15 DRAM_SDCLK_0 (in), AD17 DRAM_CS1 (io), AD18 DRAM_SDQS4 (io), AD20 DRAM_SDQS5 (io), AD21 DRAM_D43 (io), AD23 DRAM_SDQS6 (io), AD24 DRAM_DQM6 (io), AD25 DRAM_D54 (io), AE2 DRAM_D1 (io), AE3 DRAM_SDQS0 (io), AE4 DRAM_D7 (io), AE5 DRAM_D9 (io), AE6 DRAM_SDQS1_B (io), AE7 DRAM_D11 (io), AE8 DRAM_SDQS2_B (io), AE9 DRAM_D24 (io), AE10 DRAM_DQM3 (io), AE11 DRAM_D26 (io), AE12 DRAM_A9 (io), AE13 DRAM_A5 (io), AE14 DRAM_SDCLK_1_B (in), AE15 DRAM_SDCLK_0_B (in), AE16 DRAM_CAS (io), AE17 ZQPAD, AE18 DRAM_SDQS4_B (io), AE19 DRAM_D35 (io), AE20 DRAM_SDQS5_B (io), AE21 DRAM_D46 (io), AE22 DRAM_D49 (io), AE23 DRAM_SDQS6_B (io), AE24 DRAM_D50 (io), W14 DRAM_A4 (io), W25 DRAM_D63 (io), Y6 DRAM_RESET (io), Y7 DRAM_D20 (io), Y8 DRAM_D21 (io), Y9 DRAM_D19 (io), Y10 DRAM_D25 (io), Y11 DRAM_SDCKE0, Y12 DRAM_A15 (io), Y13 DRAM_A7 (io), Y14 DRAM_A3 (io), Y15 DRAM_SDBA1 (io), Y16 DRAM_CS0 (io), Y17 DRAM_D36 (io), Y18 DRAM_D37 (io), Y19 DRAM_D40 (io), Y20 DRAM_D44 (io), Y21 DRAM_DQM7 (io), Y22 DRAM_D59 (io), Y23 DRAM_D62 (io), Y25 DRAM_D58 (io)
part C pins: G8 PCIE_VPTX (power) "PCI PHY supply", G13 SATA_VP (power), H7 PCIE_VP (power), H11 VDDARM23_CAP (power) "Secondary supply for the ARM2 and ARM3 cores (internal regulator output-requires capacitor if internal regulator is used)", H13 VDDARM_CAP (power) "Secondary supply for the ARM0 and ARM1 cores (internal regulator output-requires capacitor if internal regulator is used)", H14 VDDARM_IN (power) "Primary supply for the ARM0 and ARM1 core regulator", H16 VDDSOC_IN (power) "Primary supply for the SoC and PU regulators", H17 VDDPU_CAP (power) "Secondary supply for the VPU and GPU (internal regulator output- requires capacitor if internal regulator is used)", J11 VDDARM23_CAP (power) "Secondary supply for the ARM2 and ARM3 cores (internal regulator output-requires capacitor if internal regulator is used)", J13 VDDARM_CAP (power) "Secondary supply for the ARM0 and ARM1 cores (internal regulator output-requires capacitor if internal regulator is used)", J14 VDDARM_IN (power) "Primary supply for the ARM0 and ARM1 core regulator", J16 VDDSOC_IN (power) "Primary supply for the SoC and PU regulators", J17 VDDPU_CAP (power) "Secondary supply for the VPU and GPU (internal regulator output- requires capacitor if internal regulator is used)", K9 VDDARM23_IN (power) "Primary supply for the ARM2 and ARM3 core regulator", K11 VDDARM23_CAP (power) "Secondary supply for the ARM2 and ARM3 cores (internal regulator output-requires capacitor if internal regulator is used)", K13 VDDARM_CAP (power) "Secondary supply for the ARM0 and ARM1 cores (internal regulator output-requires capacitor if internal regulator is used)", K14 VDDARM_IN (power) "Primary supply for the ARM0 and ARM1 core regulator", K16 VDDSOC_IN (power) "Primary supply for the SoC and PU regulators", K17 VDDPU_CAP (power) "Secondary supply for the VPU and GPU (internal regulator output- requires capacitor if internal regulator is used)", L7 HDMI_VP (power), L9 VDDARM23_IN (power) "Primary supply for the ARM2 and ARM3 core regulator", L11 VDDARM23_CAP (power) "Secondary supply for the ARM2 and ARM3 cores (internal regulator output-requires capacitor if internal regulator is used)", L13 VDDARM_CAP (power) "Secondary supply for the ARM0 and ARM1 cores (internal regulator output-requires capacitor if internal regulator is used)", L14 VDDARM_IN (power) "Primary supply for the ARM0 and ARM1 core regulator", L16 VDDSOC_IN (power) "Primary supply for the SoC and PU regulators", L17 VDDPU_CAP (power) "Secondary supply for the VPU and GPU (internal regulator output- requires capacitor if internal regulator is used)", M9 VDDARM23_IN (power) "Primary supply for the ARM2 and ARM3 core regulator", M11 VDDARM23_CAP (power) "Secondary supply for the ARM2 and ARM3 cores (internal regulator output-requires capacitor if internal regulator is used)", M13 VDDARM_CAP (power) "Secondary supply for the ARM0 and ARM1 cores (internal regulator output-requires capacitor if internal regulator is used)", M14 VDDARM_IN (power) "Primary supply for the ARM0 and ARM1 core regulator", M16 VDDSOC_IN (power) "Primary supply for the SoC and PU regulators", M17 VDDPU_CAP (power) "Secondary supply for the VPU and GPU (internal regulator output- requires capacitor if internal regulator is used)", N9 VDDARM23_IN (power) "Primary supply for the ARM2 and ARM3 core regulator", N11 VDDARM23_CAP (power) "Secondary supply for the ARM2 and ARM3 cores (internal regulator output-requires capacitor if internal regulator is used)", N12 VDD_CACHE_CAP (power) "Cache supply input. This input should be connected to (driven by) VDD_SOC_CAP. The external capacitor used for VDD_SOC_CAP is sufficient for this supply.", N13 VDDARM_CAP (power) "Secondary supply for the ARM0 and ARM1 cores (internal regulator output-requires capacitor if internal regulator is used)", N14 VDDARM_IN (power) "Primary supply for the ARM0 and ARM1 core regulator", N16 VDDSOC_IN (power) "Primary supply for the SoC and PU regulators", N17 VDDPU_CAP (power) "Secondary supply for the VPU and GPU (internal regulator output- requires capacitor if internal regulator is used)", P9 VDDARM23_IN (power) "Primary supply for the ARM2 and ARM3 core regulator", P11 VDDARM23_CAP (power) "Secondary supply for the ARM2 and ARM3 cores (internal regulator output-requires capacitor if internal regulator is used)", P13 VDDARM_CAP (power) "Secondary supply for the ARM0 and ARM1 cores (internal regulator output-requires capacitor if internal regulator is used)", P14 VDDARM_IN (power) "Primary supply for the ARM0 and ARM1 core regulator", P16 VDDSOC_IN (power) "Primary supply for the SoC and PU regulators", P17 VDDPU_CAP (power) "Secondary supply for the VPU and GPU (internal regulator output- requires capacitor if internal regulator is used)", R9 VDDARM23_IN (power) "Primary supply for the ARM2 and ARM3 core regulator", R10 VDDSOC_CAP (power) "Secondary supply for the SoC and PU (internal regulator output—requires capacitor if internal regulator is used)", R11 VDDARM23_CAP (power) "Secondary supply for the ARM2 and ARM3 cores (internal regulator output-requires capacitor if internal regulator is used)", R13 VDDARM_CAP (power) "Secondary supply for the ARM0 and ARM1 cores (internal regulator output-requires capacitor if internal regulator is used)", R14 VDDARM_IN (power) "Primary supply for the ARM0 and ARM1 core regulator", R16 VDDSOC_IN (power) "Primary supply for the SoC and PU regulators", R18 NVCC_DRAM (power) "Supply of the DDR interface", T9 VDDARM23_IN (power) "Primary supply for the ARM2 and ARM3 core regulator", T10 VDDSOC_CAP (power) "Secondary supply for the SoC and PU (internal regulator output—requires capacitor if internal regulator is used)", T13 VDDSOC_CAP (power) "Secondary supply for the SoC and PU (internal regulator output—requires capacitor if internal regulator is used)", T14 VDDSOC_CAP (power) "Secondary supply for the SoC and PU (internal regulator output—requires capacitor if internal regulator is used)", T16 VDDSOC_IN (power) "Primary supply for the SoC and PU regulators", T18 NVCC_DRAM (power) "Supply of the DDR interface", U9 VDDARM23_IN (power) "Primary supply for the ARM2 and ARM3 core regulator", U10 VDDSOC_CAP (power) "Secondary supply for the SoC and PU (internal regulator output—requires capacitor if internal regulator is used)", U13 VDDSOC_CAP (power) "Secondary supply for the SoC and PU (internal regulator output—requires capacitor if internal regulator is used)", U14 VDDSOC_CAP (power) "Secondary supply for the SoC and PU (internal regulator output—requires capacitor if internal regulator is used)", U16 VDDSOC_IN (power) "Primary supply for the SoC and PU regulators", U18 NVCC_DRAM (power) "Supply of the DDR interface", V9 NVCC_DRAM (power) "Supply of the DDR interface", V10 NVCC_DRAM (power) "Supply of the DDR interface", V11 NVCC_DRAM (power) "Supply of the DDR interface", V12 NVCC_DRAM (power) "Supply of the DDR interface", V13 NVCC_DRAM (power) "Supply of the DDR interface", V14 NVCC_DRAM (power) "Supply of the DDR interface", V15 NVCC_DRAM (power) "Supply of the DDR interface", V16 NVCC_DRAM (power) "Supply of the DDR interface", V17 NVCC_DRAM (power) "Supply of the DDR interface", V18 NVCC_DRAM (power) "Supply of the DDR interface"
part D pins: A5 FA_ANA, B5 VDD_FA (power), C8 GPANAIO, E8 NVCC_PLL_OUT (power), F9 VDDUSB_CAP (power) "Secondary supply for the 3 V domain (internal regulator output—requires capacitor if internal regulator is used)", G7 PCIE_VPH (power) "PCI PHY supply", G9 VDD_SNVS_CAP (power) "Secondary supply for the SNVS (internal regulator output-requires capacitor if internal regulator is used)", G11 VDD_SNVS_IN (power) "Primary supply for the SNVS regulator", G12 SATA_VPH (power), G14 NVCC_SD3 (power) "Supply of the SD card interface", G15 NVCC_NANDF (power) "Supply of the RAW NAND Flash Memories interface", G16 NVCC_SD1 (power) "Supply of the SD card interface", G17 NVCC_SD2 (power) "Supply of the SD card interface", G18 NVCC_RGMII (power) "Supply of the ENET interface", H9 VDDHIGH_IN (power) "Primary supply for the 2.5 V regulator", H10 VDDHIGH_CAP (power) "Secondary supply for the 2.5 V domain (internal regulator output-requires capacitor if internal regulator is used)", J7 NVCC_JTAG (power) "Supply of the JTAG tap controller interface", J9 VDDHIGH_IN (power) "Primary supply for the 2.5 V regulator", J10 VDDHIGH_CAP (power) "Secondary supply for the 2.5 V domain (internal regulator output-requires capacitor if internal regulator is used)", K7 NVCC_MIPI (power) "Supply of the MIPI interface", K19 NVCC_EIM0 (power) "Supply of the EIM interface", L19 NVCC_EIM1 (power) "Supply of the EIM interface", M7 HDMI_VPH (power), M19 NVCC_EIM2 (power) "Supply of the EIM interface", N7 NVCC_CSI (power) "Supply of the camera sensor interface", P7 NVCC_GPIO (power) "Supply of the GPIO interface", P19 NVCC_LCD (power) "Supply of the LCD interface", R19 NVCC_ENET (power) "Supply of the ENET interface", V7 NVCC_LVDS2P5 (power) "Supply of the LVDS display interface and DDR pre-drivers. Even if the LVDS interface is not used, this supply must remain powered."
part E pins: A4 GND (power), A8 GND (power), A13 GND (power), A25 GND (power), AA7 GND (power), AA10 GND (power), AA13 GND (power), AA16 GND (power), AA19 GND (power), AA22 GND (power), AB3 GND (power), AB24 GND (power), AD4 GND (power), AD7 GND (power), AD10 GND (power), AD13 GND (power), AD16 GND (power), AD19 GND (power), AD22 GND (power), AE1 GND (power), AE25 GND (power), B4 GND (power), C1 GND (power), C4 GND (power), C6 GND (power), C10 GND (power), D3 GND (power), D6 GND (power), D8 GND (power), E5 GND (power), E6 GND (power), E7 GND (power), F5 GND (power), F6 GND (power), F7 GND (power), F8 GND (power), G3 GND (power), G10 GND (power), G19 GND (power), H8 GND (power), H12 GND (power), H15 GND (power), H18 GND (power), J2 GND (power), J8 GND (power), J12 GND (power), J15 GND (power), J18 GND (power), K8 GND (power), K10 GND (power), K12 GND (power), K15 GND (power), K18 GND (power), L2 GND (power), L5 GND (power), L8 GND (power), L10 GND (power), L12 GND (power), L15 GND (power), L18 GND (power), M8 GND (power), M10 GND (power), M12 GND (power), M15 GND (power), M18 GND (power), N8 GND (power), N10 GND (power), N15 GND (power), N18 GND (power), P8 GND (power), P10 GND (power), P12 GND (power), P15 GND (power), P18 GND (power), R8 GND (power), R12 GND (power), R15 GND (power), R17 GND (power), T8 GND (power), T11 GND (power), T12 GND (power), T15 GND (power), T17 GND (power), T19 GND (power), U8 GND (power), U11 GND (power), U12 GND (power), U15 GND (power), U17 GND (power), U19 GND (power), V8 GND (power), V19 GND (power), W3 GND (power), W7 GND (power), W8 GND (power), W9 GND (power), W10 GND (power), W11 GND (power), W12 GND (power), W13 GND (power), W15 GND (power), W16 GND (power), W17 GND (power), W18 GND (power), W19 GND (power), Y5 GND (power), Y24 GND (power)
part F pins: N5 CSI0_DAT9 (out), N6 CSI0_DAT8 (io)
part G pins: A24 RGMII_TD3 (out), B23 RGMII_RD1 (in), B24 RGMII_RD2 (in), B25 RGMII_RXC (in), C22 RGMII_TD0 (out), C23 RGMII_TX_CTL (out), C24 RGMII_RD0 (in), D21 RGMII_TXC (out), D22 RGMII_RX_CTL (in), D23 RGMII_RD3 (in), E21 RGMII_TD2 (out), F20 RGMII_TD1 (out), V20 ENET_MDC (io), V21 ENET_TX_EN (io), V22 ENET_REF_CLK (io), V23 ENET_MDIO (io), W22 ENET_RXD1 (io)
part H pins: A2 PCIE_REXT, A3 PCIE_TXM (out), B1 PCIE_RXM (in), B2 PCIE_RXP (in), B3 PCIE_TXP (out), C7 CLK1_N (io), C17 NANDF_D1 (io), D7 CLK1_P (io), D17 NANDF_D3 (io), E17 NANDF_D6 (io)
part I pins: J1 HDMI_REF, J3 HDMI_D1M (io), J4 HDMI_D1P (io), J5 HDMI_CLKM (io), J6 HDMI_CLKP (io), K1 HDMI_HPD (io), K2 HDMI_DDCCEC (in) "Analog ground reference for the Hot Plug detect signal", K3 HDMI_D2M (io), K4 HDMI_D2P (io), K5 HDMI_D0M (io), K6 HDMI_D0P (io), W4 KEY_ROW2 (io)
part J pins: A20 SD4_DAT3 (io), A22 SD2_DAT0 (io), A23 SD2_DAT2 (io), B22 SD2_DAT3 (io), C21 SD2_CLK (io), E20 SD2_DAT1 (io), F19 SD2_CMD (io), R6 GPIO_4 (io), T1 GPIO_2 (io)
part K pins: E23 EIM_D22 (io), G23 EIM_D28 (io), H20 EIM_D21 (io), J19 EIM_D29 (io)
part L pins: G20 EIM_D20 (io), G21 EIM_D19 (io), M1 CSI0_DAT10 (io), M3 CSI0_DAT11 (io)
part M pins: C2 JTAG_TRSTB (in), C3 JTAG_TMS (in), G5 JTAG_TDI (in), G6 JTAG_TDO (out), H5 JTAG_TCK (in), H6 JTAG_MOD (in)
part N pins: A18 NANDF_D0 (in), A19 NANDF_D4 (in), B18 NANDF_D5 (io), B19 SD4_DAT1 (in), B20 SD4_DAT6 (io), C18 NANDF_D7 (io), D18 SD4_DAT0 (io), D19 SD4_DAT7 (io)
part O pins: A12 SATA_TXP (out), A14 SATA_RXM (in), B12 SATA_TXM (out), B14 SATA_RXP (in), C14 SATA_REXT, R5 GPIO_8 (io), T2 GPIO_9 (io)
part P pins: A6 USB_OTG_DP (io), B6 USB_OTG_DN (io), B8 USB_OTG_CHD_B (io), D10 USB_H1_VBUS (power), E9 USB_OTG_VBUS (power), E10 USB_H1_DP (io), F10 USB_H1_DN (io), W23 ENET_RX_ER (io)
part Q pins: T5 GPIO_0 (io), T20 DISP0_DAT21 (io), U22 DISP0_DAT20 (io), V24 DISP0_DAT22 (io), W24 DISP0_DAT23 (io)
part R pins: C12 BOOT_MODE0 (io), E11 TAMPER (io), E12 TEST_MODE, E22 EIM_EB2 (io), F12 BOOT_MODE1 (io), F23 EIM_EB3 (io), F24 EIM_A22 (io), F25 EIM_A24 (io), G24 EIM_A17 (io), G25 EIM_A19 (io), H22 EIM_A20 (io), H23 EIM_A21 (io), H25 EIM_A16 (io), J21 EIM_A23 (io), J22 EIM_A18 (io), J25 EIM_DA1 (io), K20 EIM_RW (io), K21 EIM_EB0 (io), K22 EIM_LBA (io), K23 EIM_EB1 (io), K24 EIM_DA3 (io), K25 EIM_DA6 (io), L20 EIM_DA0 (io), L21 EIM_DA2 (io), L22 EIM_DA4 (io), L23 EIM_DA5 (io), L24 EIM_DA8 (io), L25 EIM_DA7 (io), M20 EIM_DA11 (io), M21 EIM_DA9 (io), M22 EIM_DA10 (io), M23 EIM_DA13 (io), M24 EIM_DA12 (io), M25 EIM_WAIT (io), N23 EIM_DA14 (io), N24 EIM_DA15 (io)
part S pins: A15 SD3_DAT2 (io), B13 SD3_CMD (io), B15 SD3_DAT3 (io), C13 SD3_DAT5 (io), D13 SD3_DAT4 (io), D14 SD3_CLK (io), D15 SD3_RST (io), E13 SD3_DAT6 (io), E14 SD3_DAT0 (io), F13 SD3_DAT7 (io), F14 SD3_DAT1 (io), L1 CSI0_DAT13 (io), L3 CSI0_DAT17 (io), L4 CSI0_DAT16 (io), M2 CSI0_DAT12 (io), N1 CSI0_DAT4 (io), N2 CSI0_VSYNC (io), N3 CSI0_DAT7 (io), N4 CSI0_DAT6 (io), P1 CSI0_PIXCLK (io), P2 CSI0_DAT5 (io), P3 CSI0_DATA_EN (io), P4 CSI0_MCLK (io), T6 KEY_COL4 (io), T7 KEY_ROW3 (io), U5 KEY_COL3 (out), U6 KEY_ROW1 (io), U7 KEY_COL1 (io), V5 KEY_ROW4 (io), V6 KEY_ROW0 (io), W5 KEY_COL0 (io), W6 KEY_COL2 (io)
part T pins: M4 CSI0_DAT14 (io), M5 CSI0_DAT15 (io), N19 DI0_DISP_CLK (io), N20 DI0_PIN3 (io), N21 DI0_PIN15 (io), N25 DI0_PIN2 (io), P20 DISP0_DAT4 (io), P23 DISP0_DAT2 (io), P24 DISP0_DAT0 (io), P25 DI0_PIN4 (io), R4 GPIO_5 (out), R21 DISP0_DAT10 (io), R22 DISP0_DAT8 (io), R23 DISP0_DAT6 (io), R25 DISP0_DAT5 (io), T3 GPIO_6 (io), T21 DISP0_DAT16 (io), T22 DISP0_DAT15 (io), T25 DISP0_DAT9 (io), U20 ENET_TXD0 (io), U21 ENET_CRS_DV (io), U23 DISP0_DAT19 (io), U24 DISP0_DAT17 (io), V25 DISP0_DAT18 (io), W20 ENET_TXD1 (io), W21 ENET_RXD0 (io)
part U pins: A7 XTALI (in), B7 XTALO, C9 RTC_XTALO, C11 POR_B (io), D9 RTC_XTALI (in), D11 PMIC_ON_REQ (io), D12 ONOFF (in), E19 SD1_DAT2 (io), F11 PMIC_STBY_REQ (io), F18 SD1_DAT3 (io), R2 GPIO_16 (io), T4 GPIO_1 (io)
part A text: IMX6 UNUSED
part B text: IMX6 DRAM
part C text: IMX6 supply
part D text: IMX6 IO supply
part F text: IMX6 I2C; I2C1
part G text: IMX6 RGMII; RECEIVER; EMITTER; CTRL
part H text: IMX6 PCIe
part I text: IMX6 HDMI
part J text: IMX6 uSDHC2
part K text: IMX6 ECSPI4
part L text: IMX6 UART1 / DEBUG
part M text: IMX6 JTAG
part N text: IMX6 USR INTERFACE
part O text: IMX6 SATA
part P text: IMX6 USB; HOST; OTG
part Q text: IMX6 AUDMUX4
part R text: IMX6 BOOT SEL
part S text: IMX6 EXT CONNECTOR; SPI1; I2C2; CAN2; UART4; GPIO; uSDHC3
part T text: IMX6 GPIO; SPI2; I2C3; PWM1, 2; UART5; GPIO4, 1; AUDMUX6
part U text: IMX6 CONTROL AND XTAL

## inductor 1.0µ 9A
designator L?, comment 1µ  Saturation: 9A
inductor 1.0µ 9A sat 4020 74438356010
footprint inductor 4020 MAPI
pins: 1, 2

## inductor 2.2µ 10.5A
designator L?, comment 2.2µ  sat current: 10.5A
inductor 2.2µ 10.5A 7050 / 74437349022
footprint Inductor LHMI 7050
pins: 1, 2

## inductor 3.3µ 7.3A
designator L?, comment 3.3u  sat current: 7.3A
inductor 3.3µ 7.3A sat 5030 / 74438367033
footprint inducto 5030 MAPI
pins: 1, 2

## inductor 4.7µ 6.4A
designator L?, comment 4.7µ  Saturation: 6.4A
inductor 4.7µ 6.4A sat 4030 / 74438357047; ComponentLink1Description: New link; ComponentLink1URL: https://www.we-online.com/catalog/datasheet/74438357047.pdf
footprint inductor 4030 74438357047
pins: 1, 2

## inductor air
designator L?
pins: 1, 2

## Inductor coupled 1
designator L?
pins: 1, 2, 3, 4

## Inductor coupled 2
designator L?
pins: 1, 2, 3, 4

## inductor coupled inverted
designator L?
pins: 1, 2, 3, 4

## inductor coupled USB
designator L?, comment 90Ohm
WE-CNSW SMT Common Mode Line Filter, size 0603, 90Ohm, 0.55A, 50V; Manufacturer Part Number: 744230900; Manufacturer: Wurth Elektronik; DC Resistance max.: 0.145Ohm; Impedance Test Condition: 100MHz; Insulation Test Voltage: 125VAC; Winding Style: bifiliar; ComponentLink1Description: Manufacturer; ComponentLink1URL: http://www.we-online.de; ComponentLink2Description: Datasheet; ComponentLink2URL: https://www.we-online.com/catalog/datasheet/744230900.pdf; Operating Temperature: -40 to +125degC; Packaging: Tape and Reel; Published Date: April 2020; Rated Current: 0.55A; Size: 0603; Impedance: 90Ohm; Rated Voltage: 50V; Mounting Technology: SMT
footprint inductor coupled usb 0603
footprint inductor coupled usb 0603
pins: 1, 2, 3, 4

## inductor iron core
designator L?
pins: 1, 2

## jumper
designator SB?  (value not drawn)
footprint jumper
pins: 1, 2

## LED bicolor red and green
designator D?, comment 150066RG54050
2 Leds in one package, 0606 150066RG54050
footprint LED bicolor 0606
pins: 1 K, 2 A, 3 A, 4 K

## LED blue 0603
designator D?, comment Blue, 3.2V, 120deg
WL-SMCC SMD Mono-color Chip LED Compact, size 0603, Blue, 3.2V, 120deg 150060BS73220; Dominant Wavelength: 470nm; Luminous Intensity: 170mcd; Peak Wavelength: 465nm; Chip Technology: InGaN; ComponentLink1URL: http://www.we-online.de; ComponentLink2Description: Datasheet; ComponentLink2URL: https://katalog.we-online.com/led/datasheet/150060BS73220.pdf; Part Number: 150060BS73220; Published Date: July 2019; Publisher: Wurth Elektronik; Size: 0603; Viewing Angle: 120deg; Packaging: Tape and Reel; Emitting Color: Blue; Mounting Technology: SMT; Forward Voltage: 3.2V; Operating Temperature: -40 to +85degC
footprint LED blue 0603
pins: 1 K, 2 A

## LED green 0603
designator D?, comment Bright Green, 2V, 120deg
WL-SMCC SMD Mono-color Chip LED Compact, size 0603, Bright Green, 2V, 120deg 150060VS73220; Dominant Wavelength: 573nm; Luminous Intensity: 60mcd; Peak Wavelength: 575nm; Chip Technology: AlInGaP; ComponentLink1URL: http://www.we-online.de; ComponentLink2Description: Datasheet; ComponentLink2URL: https://katalog.we-online.com/led/datasheet/150060VS73220.pdf; Part Number: 150060VS73220; Published Date: July 2019; Publisher: Wurth Elektronik; Size: 0603; Viewing Angle: 120deg; Packaging: Tape and Reel; Emitting Color: Bright Green; Mounting Technology: SMT; Forward Voltage: 2V; Operating Temperature: -40 to +85degC
footprint LED green 0603
pins: 1 K, 2 A

## LED Red 0603
designator D?, comment Red, 2V, 120deg
WL-SMCC SMD Mono-color Chip LED Compact, size 0603, Red, 2V, 120deg 150060RS73220; Dominant Wavelength: 624nm; Luminous Intensity: 90mcd; Peak Wavelength: 632nm; Chip Technology: AlInGaP; ComponentLink1URL: http://www.we-online.de; ComponentLink2Description: Datasheet; ComponentLink2URL: https://katalog.we-online.com/led/datasheet/150060RS73220.pdf; Part Number: 150060RS73220; Published Date: July 2019; Publisher: Wurth Elektronik; Size: 0603; Viewing Angle: 120deg; Packaging: Tape and Reel; Emitting Color: Red; Mounting Technology: SMT; Forward Voltage: 2V; Operating Temperature: -40 to +85degC
footprint LED red 0603
pins: 1 K, 2 A

## LED Yellow 0603
designator D?, comment Yellow, 2V, 120deg
WL-SMCC SMD Mono-color Chip LED Compact, size 0603, Yellow, 2V, 120deg 150060YS73220; Dominant Wavelength: 589nm; Luminous Intensity: 100mcd; Peak Wavelength: 591nm; Chip Technology: AlInGaP; ComponentLink1URL: http://www.we-online.de; ComponentLink2Description: Datasheet; ComponentLink2URL: https://katalog.we-online.com/led/datasheet/150060YS73220.pdf; Part Number: 150060YS73220; Published Date: July 2019; Publisher: Wurth Elektronik; Size: 0603; Viewing Angle: 120deg; Packaging: Tape and Reel; Emitting Color: Yellow; Mounting Technology: SMT; Forward Voltage: 2V; Operating Temperature: -40 to +85degC
footprint LED yellow 0603
pins: 1 K, 2 A

## Marking CE
designator M?
CE marking
footprint MARKING CE

## marking IP
designator M?
for IP marking
footprint MARKING IP
text: IP marking

## Marking layer number
designator M?
Layer number
footprint MARKING layer number
text: 12345678

## Marking number
designator M?
Card number
footprint MARKING number

## Marking RoHS
designator M?
RoHS marking
footprint MARKING ROHS

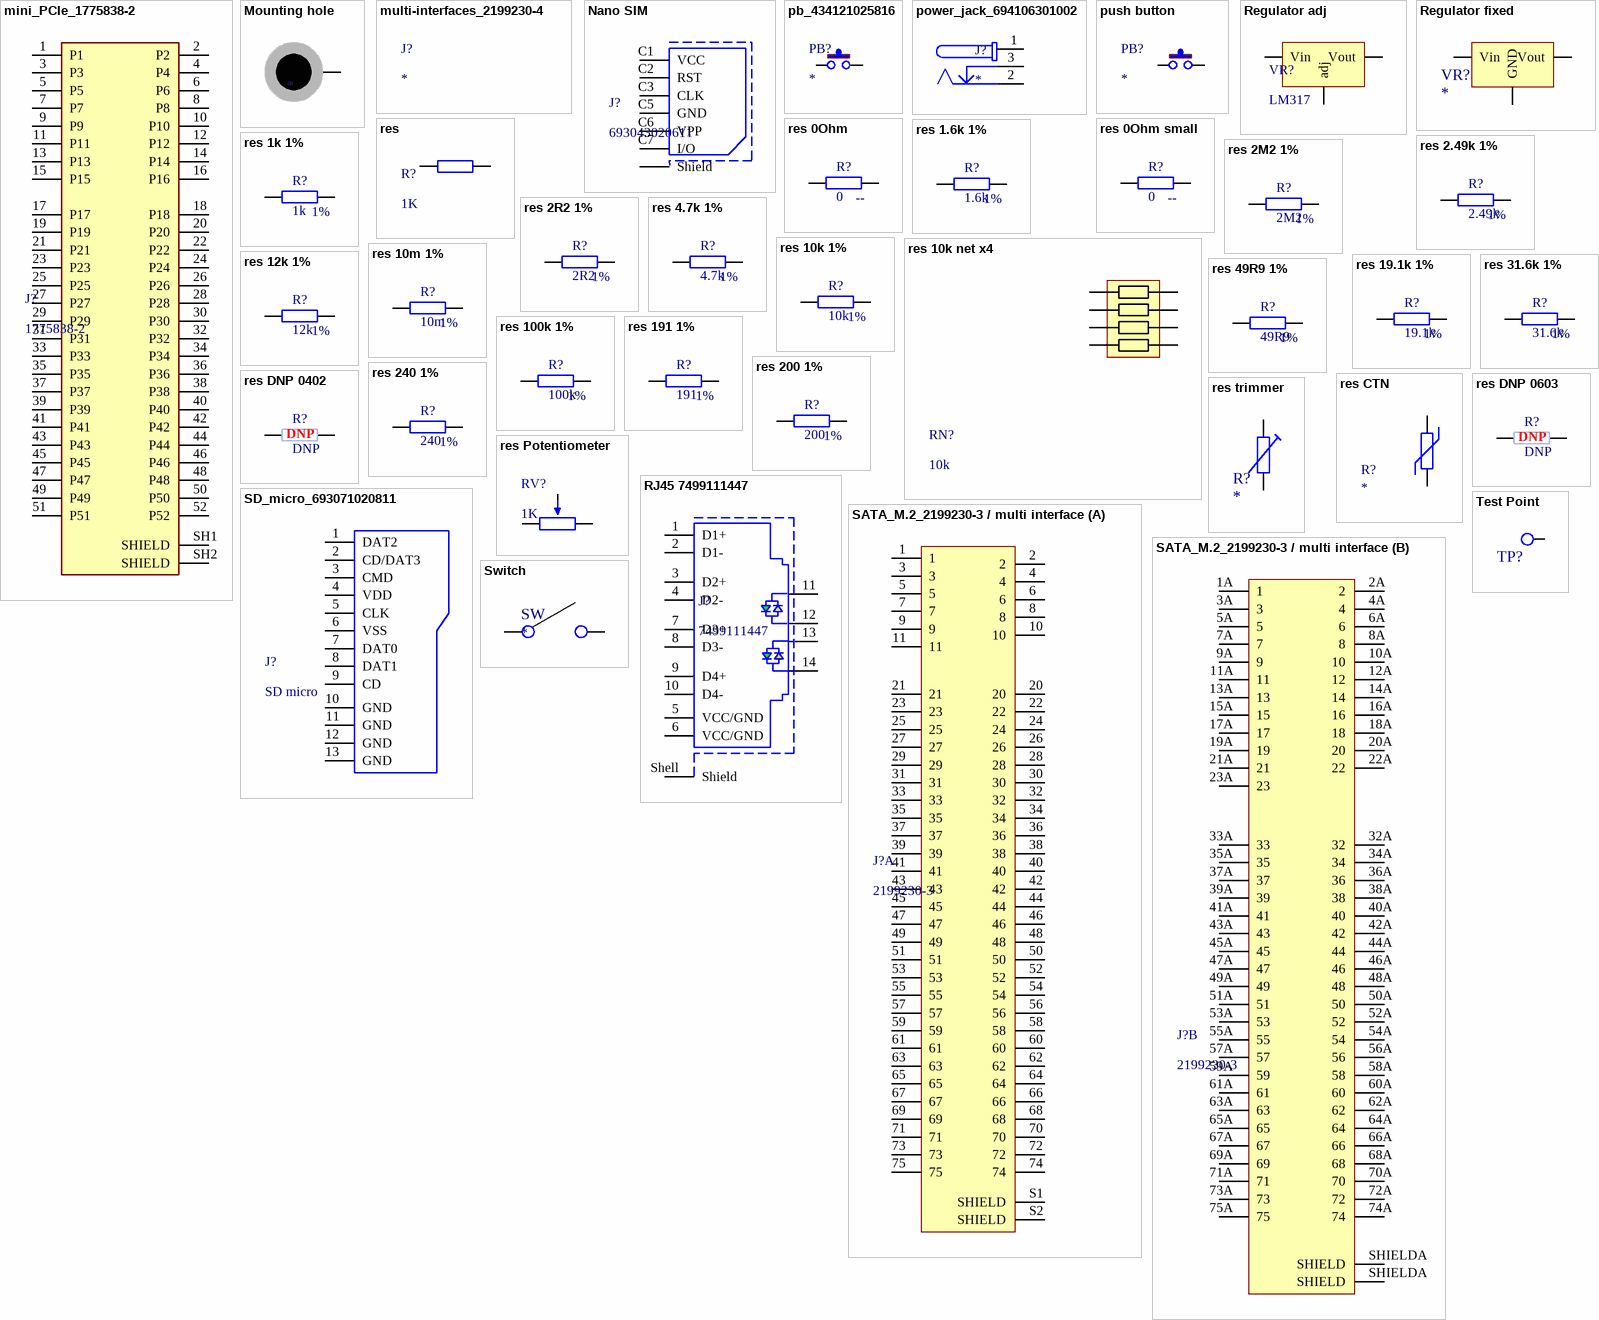
[diagram p6: symbols mini_PCIe_1775838-2 to Test Point]

## mini_PCIe_1775838-2
designator J?, comment 1775838-2
mini pcie connector
footprint mini_PCIe_1775838-2
pins: 1 P1, 2 P2, 3 P3, 4 P4, 5 P5, 6 P6, 7 P7, 8 P8, 9 P9, 10 P10, 11 P11, 12 P12, 13 P13, 14 P14, 15 P15, 16 P16, 17 P17, 18 P18, 19 P19, 20 P20, 21 P21, 22 P22, 23 P23, 24 P24, 25 P25, 26 P26, 27 P27, 28 P28, 29 P29, 30 P30, 31 P31, 32 P32, 33 P33, 34 P34, 35 P35, 36 P36, 37 P37, 38 P38, 39 P39, 40 P40, 41 P41, 42 P42, 43 P43, 44 P44, 45 P45, 46 P46, 47 P47, 48 P48, 49 P49, 50 P50, 51 P51, 52 P52, SH1 SHIELD, SH2 SHIELD

## Mounting hole
designator MT?
mounting hole / H : 3.2mm / D : 5.2mm
footprint mountinghole
pins: 0

## multi-interfaces_2199230-4
designator J?
footprint multi-interfaces_2199230-4

## Nano SIM
designator J?, comment 693043020611
footprint nano SIM 693043020611
pins: C1 VCC, C2 RST, C3 CLK, C5 GND, C6 VPP, C7 I/O, Shield

## pb_434121025816
designator PB?
footprint pb_434121025816
pins: 1, 2

## power_jack_694106301002
designator J?
footprint power_jack_694106301002
pins: 1, 2, 3

## push button
designator PB?
pins: 1, 2

## Regulator adj
designator VR?, comment LM317
footprint TO-92
footprint TO-220
pins: 1 adj, 2 Vout, 3 Vin

## Regulator fixed
designator VR?
footprint TO-220
pins: 1 Vin, 2 GND, 3 Vout

## res
designator R?, comment 1K
footprint res Axial 0.4
footprint res 0805
footprint res 5W radial
footprint Res 0402
footprint Res 0603
footprint Res 1206
pins: 1, 2

## res 0Ohm
designator R?, comment 0
res 0603; pourcentage: --
footprint Res 0603/1603
pins: 1, 2

## res 0Ohm small
designator R?, comment 0
res 0402; pourcentage: --
footprint Res 0402/1005
pins: 1, 2

## res 1.6k 1%
designator R?, comment 1.6k  pourcentage: 1%
res 1.6k 1% 0402
footprint Res 0402/1005
pins: 1, 2

## res 1k 1%
designator R?, comment 1k  pourcentage: 1%
res 1k 1% 0402
footprint Res 0402/1005
pins: 1, 2

## res 2.49k 1%
designator R?, comment 2.49k  pourcentage: 1%
res 2.49k 1% 0402
footprint Res 0402/1005
pins: 1, 2

## res 2M2 1%
designator R?, comment 2M2  pourcentage: 1%
res 2M2 1% 0402
footprint Res 0402/1005
pins: 1, 2

## res 2R2 1%
designator R?, comment 2R2  pourcentage: 1%
res 2R2 1% 0603
footprint Res 0603/1603
pins: 1, 2

## res 4.7k 1%
designator R?, comment 4.7k  pourcentage: 1%
res 4.7k 1% 0402
footprint Res 0402/1005
pins: 1, 2

## res 10k 1%
designator R?, comment 10k  pourcentage: 1%
res 10k 1% 0402
footprint Res 0402/1005
pins: 1, 2

## res 10k net x4
designator RN?, comment 10k
resistor network 10k 5% x4 EXB-28V103JX
footprint res net x4  EXB-28V103JX
pins: 1, 2, 3, 4, 5, 6 1, 7, 8

## res 10m 1%
designator R?, comment 10m  pourcentage: 1%
res 10m 1% 0.33W 0603
footprint Res 0603/1603
pins: 1, 2

## res 12k 1%
designator R?, comment 12k  pourcentage: 1%
res 12k 1% 0402
footprint Res 0402/1005
pins: 1, 2

## res 19.1k 1%
designator R?, comment 19.1k  pourcentage: 1%
res 19.1k 1% 0402
footprint Res 0402/1005
pins: 1, 2

## res 31.6k 1%
designator R?, comment 31.6k  pourcentage: 1%
res 31.6k 1% 0402
footprint Res 0402/1005
pins: 1, 2

## res 49R9 1%
designator R?, comment 49R9  pourcentage: 1%
res 49R9 ohm 1% 0402
footprint Res 0402/1005
pins: 1, 2

## res 100k 1%
designator R?, comment 100k  pourcentage: 1%
res 100k 1% 0402
footprint Res 0402/1005
pins: 1, 2

## res 191 1%
designator R?, comment 191  pourcentage: 1%
res 191 ohm 1% 0402
footprint Res 0402/1005
pins: 1, 2

## res 200 1%
designator R?, comment 200  pourcentage: 1%
res 200 1% 0402
footprint Res 0402/1005
pins: 1, 2

## res 240 1%
designator R?, comment 240  pourcentage: 1%
res 240 1% 0402
footprint Res 0402/1005
pins: 1, 2

## res CTN
designator R?
pins: 1, 2

## res DNP 0402
designator R?, comment DNP
res DNP 0403; pourcentage: 1%
footprint Res 0402/1005
pins: 1, 2

## res DNP 0603
designator R?, comment DNP
res DNP 0603; pourcentage: 1%
footprint Res 0603/1603
pins: 1, 2

## res Potentiometer
designator RV?, comment 1K
footprint pot_1
footprint trimmer1
pins: 1, 2, 3

## res trimmer
designator R?
pins: 1, 2

## RJ45 7499111447
designator J?, comment 7499111447
footprint RJ45 7499111447
pins: 1 D1+, 2 D1-, 3 D2+, 4 D2-, 5 VCC/GND, 6 VCC/GND, 7 D3+, 8 D3-, 9 D4+, 10 D4-, 11, 12, 13, 14, Shell Shield

## SATA_M.2_2199230-3 / multi interface
designator J?, comment 2199230-3
Combined component with SATA M.2 and external card connector (M.2 format too) / ref : / 2199230-4 / 2199230-3
footprint SATA_M2_ 2199230-3
part A pins: 1, 2, 3, 4, 5, 6, 7, 8, 9, 10, 11, 20, 21, 22, 23, 24, 25, 26, 27, 28, 29, 30, 31, 32, 33, 34, 35, 36, 37, 38, 39, 40, 41, 42, 43, 44, 45, 46, 47, 48, 49, 50, 51, 52, 53, 54, 55, 56, 57, 58, 59, 60, 61, 62, 63, 64, 65, 66, 67, 68, 69, 70, 71, 72, 73, 74, 75, S1 SHIELD, S2 SHIELD
part B pins: 1A 1, 2A 2, 3A 3, 4A 4, 5A 5, 6A 6, 7A 7, 8A 8, 9A 9, 10A 10, 11A 11, 12A 12, 13A 13, 14A 14, 15A 15, 16A 16, 17A 17, 18A 18, 19A 19, 20A 20, 21A 21, 22A 22, 23A 23, 32A 32, 33A 33, 34A 34, 35A 35, 36A 36, 37A 37, 38A 38, 39A 39, 40A 40, 41A 41, 42A 42, 43A 43, 44A 44, 45A 45, 46A 46, 47A 47, 48A 48, 49A 49, 50A 50, 51A 51, 52A 52, 53A 53, 54A 54, 55A 55, 56A 56, 57A 57, 58A 58, 59A 59, 60A 60, 61A 61, 62A 62, 63A 63, 64A 64, 65A 65, 66A 66, 67A 67, 68A 68, 69A 69, 70A 70, 71A 71, 72A 72, 73A 73, 74A 74, 75A 75, SHIELDA SHIELD, SHIELDA SHIELD

## SD_micro_693071020811
designator J?, comment SD micro
SD micro card, push & push
footprint SD_micro_693071020811
pins: 1 DAT2, 2 CD/DAT3, 3 CMD, 4 VDD, 5 CLK, 6 VSS, 7 DAT0, 8 DAT1, 9 CD, 10 GND, 11 GND, 12 GND, 13 GND

## Switch
designator SW
pins: 1 0, 2 1

## Test Point
designator TP?  (value not drawn)
Test point 1mm diameter
footprint testpoint 1mm
pins: 1 tp

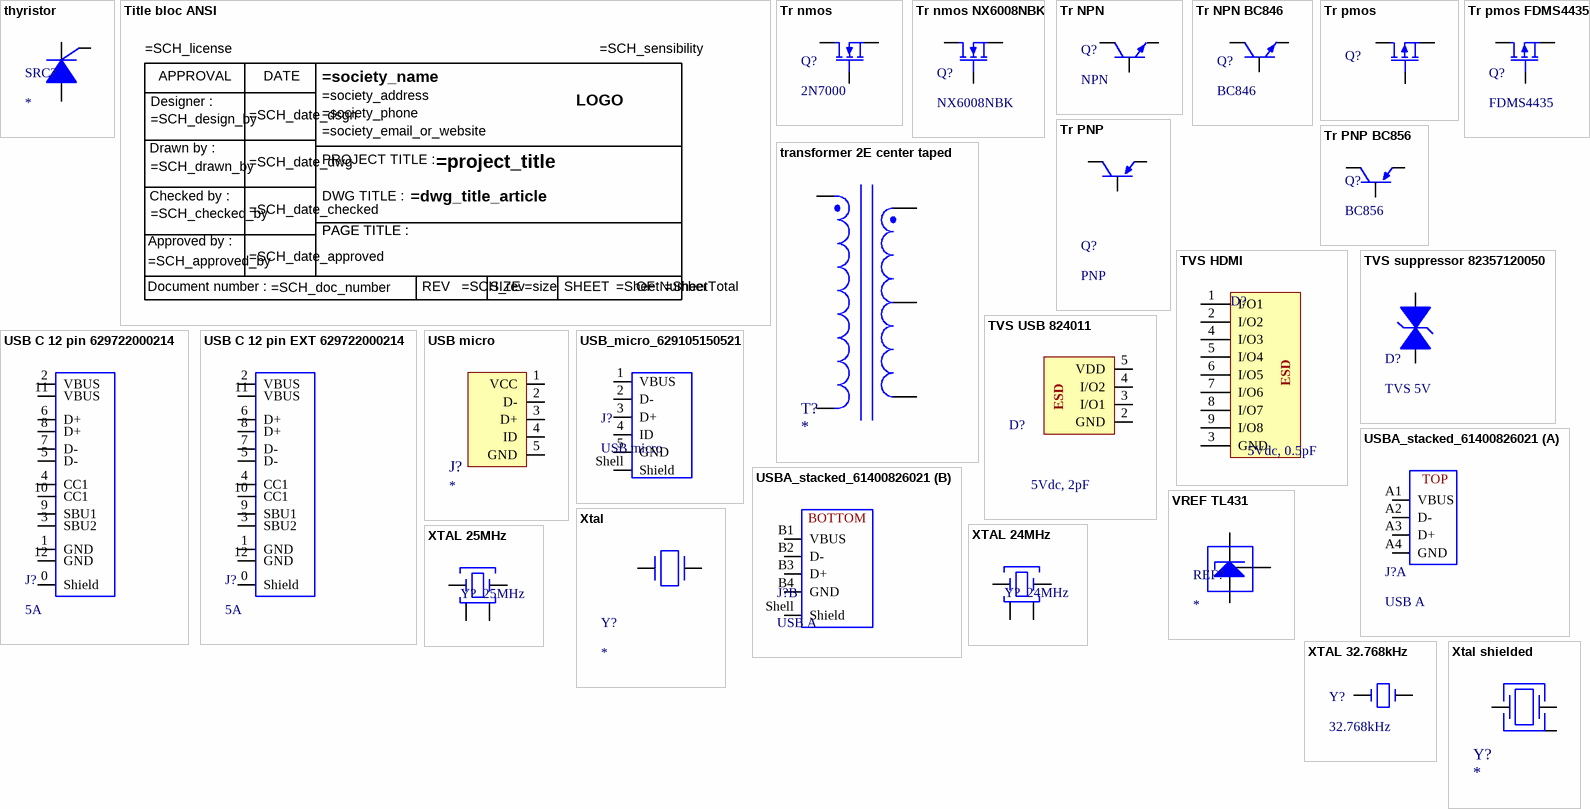
[diagram p7: symbols thyristor to Xtal shielded]

## thyristor
designator SRC?
footprint To-126
pins: 1 K, 2 A, 3 G

## Title bloc ANSI
designator TB?, comment Title bloc ANSI modified  (value not drawn)
text: APPROVAL; DATE; Designer :; LOGO; Drawn by :; PROJECT TITLE :; Checked by :; DWG TITLE :; PAGE TITLE :; Approved by :; Document number :; REV; SIZE; SHEET; OF

## Tr nmos
designator Q?, comment 2N7000
footprint TO-92
footprint TO-220
pins: 1 D, 2 G, 3 S

## Tr nmos NX6008NBK
designator Q?, comment NX6008NBK
SOT-23-3 270mA 60V ESD protected 2kV HBM
footprint Sot-23-3 mosfet
pins: D, G, S

## Tr NPN
designator Q?, comment NPN
footprint Sot-23-3 transistor
footprint To-92 transistor
footprint to-126 (Sot-32) transistor
footprint To-220 transistor
footprint to-220 couche transistor
pins: B Base, C Collector, E Emitter

## Tr NPN BC846
designator Q?, comment BC846
100mA
footprint Sot-23-3 transistor
pins: B Base, C Collector, E Emitter

## Tr pmos
designator Q?
footprint TO-92
footprint TO-220
pins: D, G, S

## Tr pmos FDMS4435
designator Q?, comment FDMS4435
ComponentLink1Description: New link; ComponentLink1URL: https://www.mouser.fr/datasheet/2/308/1/FDMS4435BZ_D-2312397.pdf
footprint PQFN-8 mosfet
pins: D, G, S

## Tr PNP
designator Q?, comment PNP
footprint Sot-23-3 transistor
footprint to-126 (Sot-32) transistor
footprint to-220 couche transistor
pins: B Base, C Collector, E Emitter

## Tr PNP BC856
designator Q?, comment BC856
100mA
footprint Sot-23-3 transistor
pins: B Base, C Collector, E Emitter

## transformer 2E center taped
designator T?
pins: 1, 2, 3, 5, 5